# Altium schematic symbol library Sch_Device_veryaz.SchLib: 543 symbols (part 1 of 4)
Pins are listed as number, name and electrical type; pins without a type are passive.

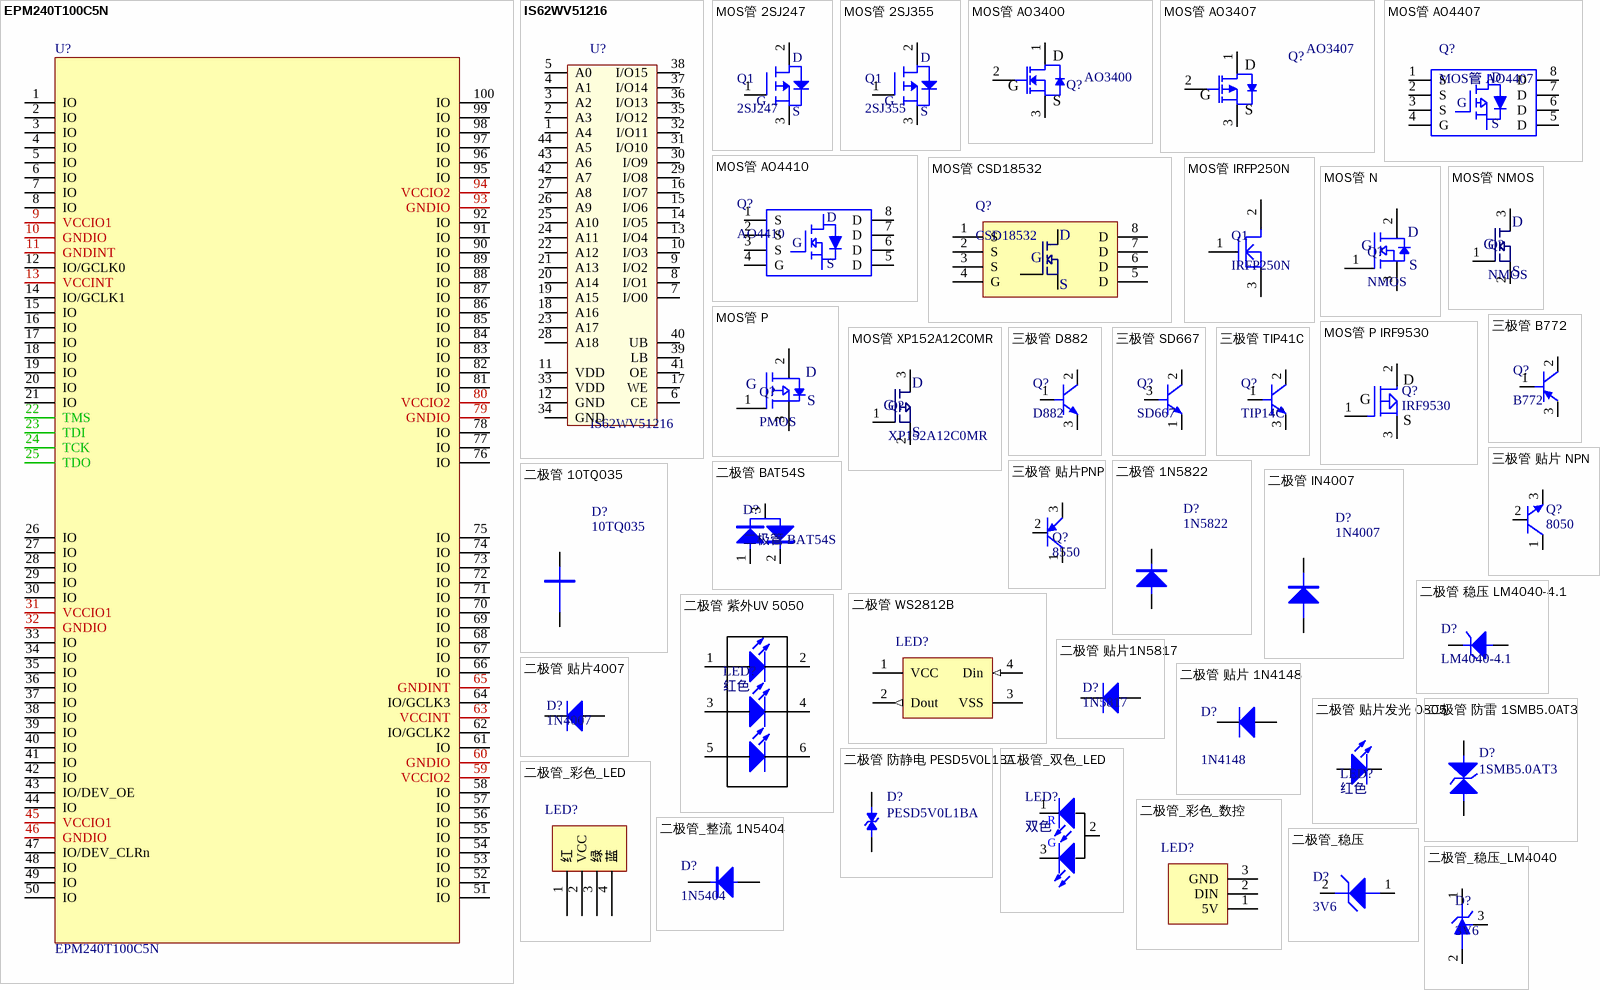
[diagram p0: symbols EPM240T100C5N to 二极管_稳压_LM4040]

## EPM240T100C5N
designator U?
封装: TQFP100; 名称: 贴片芯片; 单位: 片
footprint TQFP100 (Thin QFP, 100-Leads, Body 14x14mm, Pitch 0.5mm, IPC Low Density)
pins: 1 IO, 2 IO, 3 IO, 4 IO, 5 IO, 6 IO, 7 IO, 8 IO, 9 VCCIO1, 10 GNDIO, 11 GNDINT, 12 IO/GCLK0, 13 VCCINT, 14 IO/GCLK1, 15 IO, 16 IO, 17 IO, 18 IO, 19 IO, 20 IO, 21 IO, 22 TMS, 23 TDI, 24 TCK, 25 TDO, 26 IO, 27 IO, 28 IO, 29 IO, 30 IO, 31 VCCIO1, 32 GNDIO, 33 IO, 34 IO, 35 IO, 36 IO, 37 IO, 38 IO, 39 IO, 40 IO, 41 IO, 42 IO, 43 IO/DEV_OE, 44 IO, 45 VCCIO1, 46 GNDIO, 47 IO/DEV_CLRn, 48 IO, 49 IO, 50 IO, 51 IO, 52 IO, 53 IO, 54 IO, 55 IO, 56 IO, 57 IO, 58 IO, 59 VCCIO2, 60 GNDIO, 61 IO, 62 IO/GCLK2, 63 VCCINT, 64 IO/GCLK3, 65 GNDINT, 66 IO, 67 IO, 68 IO, 69 IO, 70 IO, 71 IO, 72 IO, 73 IO, 74 IO, 75 IO, 76 IO, 77 IO, 78 IO, 79 GNDIO, 80 VCCIO2, 81 IO, 82 IO, 83 IO, 84 IO, 85 IO, 86 IO, 87 IO, 88 IO, 89 IO, 90 IO, 91 IO, 92 IO, 93 GNDIO, 94 VCCIO2, 95 IO, 96 IO, 97 IO, 98 IO, 99 IO, 100 IO

## IS62WV51216
designator U?
footprint TSOP44
pins: 1 A4, 2 A3, 3 A2, 4 A1, 5 A0, 6 CE, 7 I/O0, 8 I/O1, 9 I/O2, 10 I/O3, 11 VDD, 12 GND, 13 I/O4, 14 I/O5, 15 I/O6, 16 I/O7, 17 WE, 18 A16, 19 A15, 20 A14, 21 A13, 22 A12, 23 A17, 24 A11, 25 A10, 26 A9, 27 A8, 28 A18, 29 I/O8, 30 I/O9, 31 I/O10, 32 I/O11, 33 VDD, 34 GND, 35 I/O12, 36 I/O13, 37 I/O14, 38 I/O15, 39 LB, 40 UB, 41 OE, 42 A7, 43 A6, 44 A5

## MOS管 2SJ247
designator Q1, comment 2SJ247
单位: 个; 封装: TO220; 名称: MOS管
footprint TO220
pins: 1, 2, 3
text: D; G; S

## MOS管 2SJ355
designator Q1, comment 2SJ355
单位: 个; 封装: 贴片; 名称: MOS管
footprint sot23b
pins: 1, 2, 3
text: D; G; S

## MOS管 AO3400
designator Q?, comment AO3400
单位: 个; 名称: N沟道MOS; 封装: TO-220
footprint SOT23B
pins: 1 D, 2 G, 3 S

## MOS管 AO3407
designator Q?, comment AO3407
单位: 个; 名称: P沟道MOS; 封装: SOT23
footprint SOT23B
pins: 1 D, 2 G, 3 S

## MOS管 AO4407
designator Q?
单位: 片; 封装: SOIC8; 名称: MOS管
footprint SOIC8
pins: 1 S, 2 S, 3 S, 4 G, 5 D, 6 D, 7 D, 8 D

## MOS管 AO4410
designator Q?, comment AO4410
名称: MOS管; 单位: 片; 封装: SOIC8
footprint SOIC8
pins: 1 S, 2 S, 3 S, 4 G, 5 D, 6 D, 7 D, 8 D

## MOS管 CSD18532
designator Q?, comment CSD18532
pins: 1 S, 2 S, 3 S, 4 G, 5 D, 6 D, 7 D, 8 D

## MOS管 IRFP250N
designator Q1, comment IRFP250N
单位: 个; 封装: 贴片; 名称: MOS管
footprint TO220 IRF9530
pins: 1, 2, 3

## MOS管 N
designator Q?, comment NMOS
单位: 个; 封装: TO220; 名称: P沟道 MOS管
footprint sot23b XP152A12C0MR
pins: 1 G, 2 D, 3 S

## MOS管 NMOS
designator Q?, comment NMOS
单位: 个; 封装: SOT23B; 名称: N沟道 MOS管
footprint sot23b XP152A12C0MR
pins: 1 G, 2 S, 3 D

## MOS管 P
designator Q?, comment PMOS
单位: 个; 封装: TO220; 名称: P沟道 MOS管
footprint sot23b XP152A12C0MR
pins: 1 G, 2 D, 3
text: S

## MOS管 P IRF9530
designator Q?, comment IRF9530
footprint TO220 IRF9530
pins: 1, 2, 3
2 alternate drawings of the same symbol

## MOS管 XP152A12C0MR
designator Q?, comment XP152A12C0MR
单位: 个; 封装: TO220; 名称: P沟道 MOS管
footprint sot23b XP152A12C0MR
pins: 1 G, 2 S, 3 D

## 三极管 B772
designator Q?, comment B772
单位: 片; 名称: 三极管; 封装: 贴片
footprint SOT89
pins: 1, 2, 3

## 三极管 D882
designator Q?, comment D882
单位: 片; 名称: 三极管; 封装: 贴片
footprint SOT89
pins: 1, 2, 3

## 三极管 SD667
designator Q?, comment SD667
单位: 片; 名称: 三极管; 封装: 直插
footprint TO92 LM78L05
pins: 1, 2, 3

## 三极管 TIP41C
designator Q?, comment TIP14C
单位: 片; 名称: 三极管; 封装: 直插
footprint TO220
pins: 1, 2, 3

## 三极管 贴片 NPN
designator Q?, comment 8050
NPN 8050; 名称: 贴片三极管; 封装: SOT23B; 单位: 个
footprint sot23b
pins: 1 C, 2 B, 3 E

## 三极管 贴片PNP
designator Q?, comment 8550
PNP 8550; 名称: 贴片三极管; 封装: SOT23B; 单位: 个
footprint sot23b
pins: 1 C, 2 B, 3 E

## 二极管 1N5822
designator D?, comment 1N5822
名称: 二极管; 封装: 直插; 单位: 个
footprint 二极管 贴片 4007
pins: 1 A, 2 K
2 alternate drawings of the same symbol

## 二极管 10TQ035
designator D?, comment 10TQ035
名称: 二极管; 封装: 直插; 单位: 个
footprint 二极管 贴片 4007
pins: 1 A, 2 K
2 alternate drawings of the same symbol

## 二极管 BAT54S
designator D?
单位: 个; 封装: SOT23; 名称: 二极管
footprint sot23b XP152A12C0MR
pins: 1, 2, 3

## 二极管 IN4007
designator D?, comment 1N4007
名称: 二极管; 封装: 贴片; 单位: 个
footprint 二极管 贴片 4007
pins: 1 A, 2 K
2 alternate drawings of the same symbol

## 二极管 WS2812B
designator LED?, comment WS2812B  (value not drawn)
单位: 个; 封装: 5050; 名称: WS2812B
footprint LED5050 (Footprint not found)
pins: 1 VCC, 2 Dout (out), 3 VSS, 4 Din (in)

## 二极管 稳压 LM4040-4.1
designator D?, comment LM4040-4.1
单位: 个; 封装: SOT23; 名称: 稳压二极管
footprint sot23b
pins: 2 K, 3 A

## 二极管 紫外UV 5050
designator LED?, comment 红色
名称: 贴片发光二极管; 封装: 5050; 单位: 个
footprint LED5050UV (Footprint not found)
pins: 1 A, 2 K, 3 A, 4 K, 5 A, 6 K

## 二极管 贴片1N5817
designator D?, comment 1N5817
名称: 贴片二极管; 封装: 贴片; 单位: 个
footprint 二极管 贴片 4007
pins: 1 A, 2 K
2 alternate drawings of the same symbol

## 二极管 贴片4007
designator D?, comment 1N4007
名称: 贴片二极管; 封装: 贴片; 单位: 个
footprint 二极管 贴片 4007
pins: 1 A, 2 K
2 alternate drawings of the same symbol

## 二极管 贴片 1N4148
designator D?, comment 1N4148
名称: 贴片二极管; 封装: 贴片; 单位: 个
footprint 二极管 贴片 IN4148 (SMT LED; 2 Flat Leads)
pins: 1 A, 2 K
2 alternate drawings of the same symbol

## 二极管 贴片发光 0805
designator LED?, comment 红色
名称: 贴片发光二极管; 封装: 0805; 单位: 个
footprint LED0805 (Chip Capacitor; Body 2.0 x 1.2 mm (LxW typ))
pins: 1 A, 2 K

## 二极管 防雷 1SMB5.0AT3
designator D?, comment 1SMB5.0AT3
名称: 防雷管; 封装: 直插; 单位: 个
footprint 二极管 贴片 4007
pins: 1 A, 2 K

## 二极管 防静电 PESD5V0L1BA
designator D?, comment PESD5V0L1BA
名称: 防静电管; 封装: 直插; 单位: 个
footprint 0805
pins: 1 A, 2 K

## 二极管_双色_LED
designator LED?, comment 双色
名称: 双色LED; 封装: 直插 5; 单位: 个
footprint LED5_双色
pins: 1 R, 2 C, 3 G

## 二极管_彩色_LED
designator LED?, comment LED  (value not drawn)
单位: 个; 封装: 直插 5; 名称: 三色发光二极管
footprint LED5_三色
pins: 1 红, 2 VCC, 3 绿, 4 蓝

## 二极管_彩色_数控
designator LED?, comment LED  (value not drawn)
单位: 个; 封装: 直插 5; 名称: 三色发光二极管
footprint LED5_彩色
pins: 1 5V, 2 DIN, 3 GND

## 二极管_整流 1N5404
designator D?, comment 1N5404
单位: 个; 封装: 直插; 名称: 整流二极管
footprint 二极管 直插 1N5404
pins: 1 A, 2 K

## 二极管_稳压
designator D?, comment 3V6
单位: 个; 封装: 贴片; 名称: 稳压二极管
footprint 二极管 贴片 IN4148 (SMT LED; 2 Flat Leads)
pins: 1 A, 2 K

## 二极管_稳压_LM4040
designator D?, comment 3V6
单位: 个; 封装: 贴片; 名称: 稳压二极管
footprint SOT23B
pins: 1 A, 2 K, 3 K

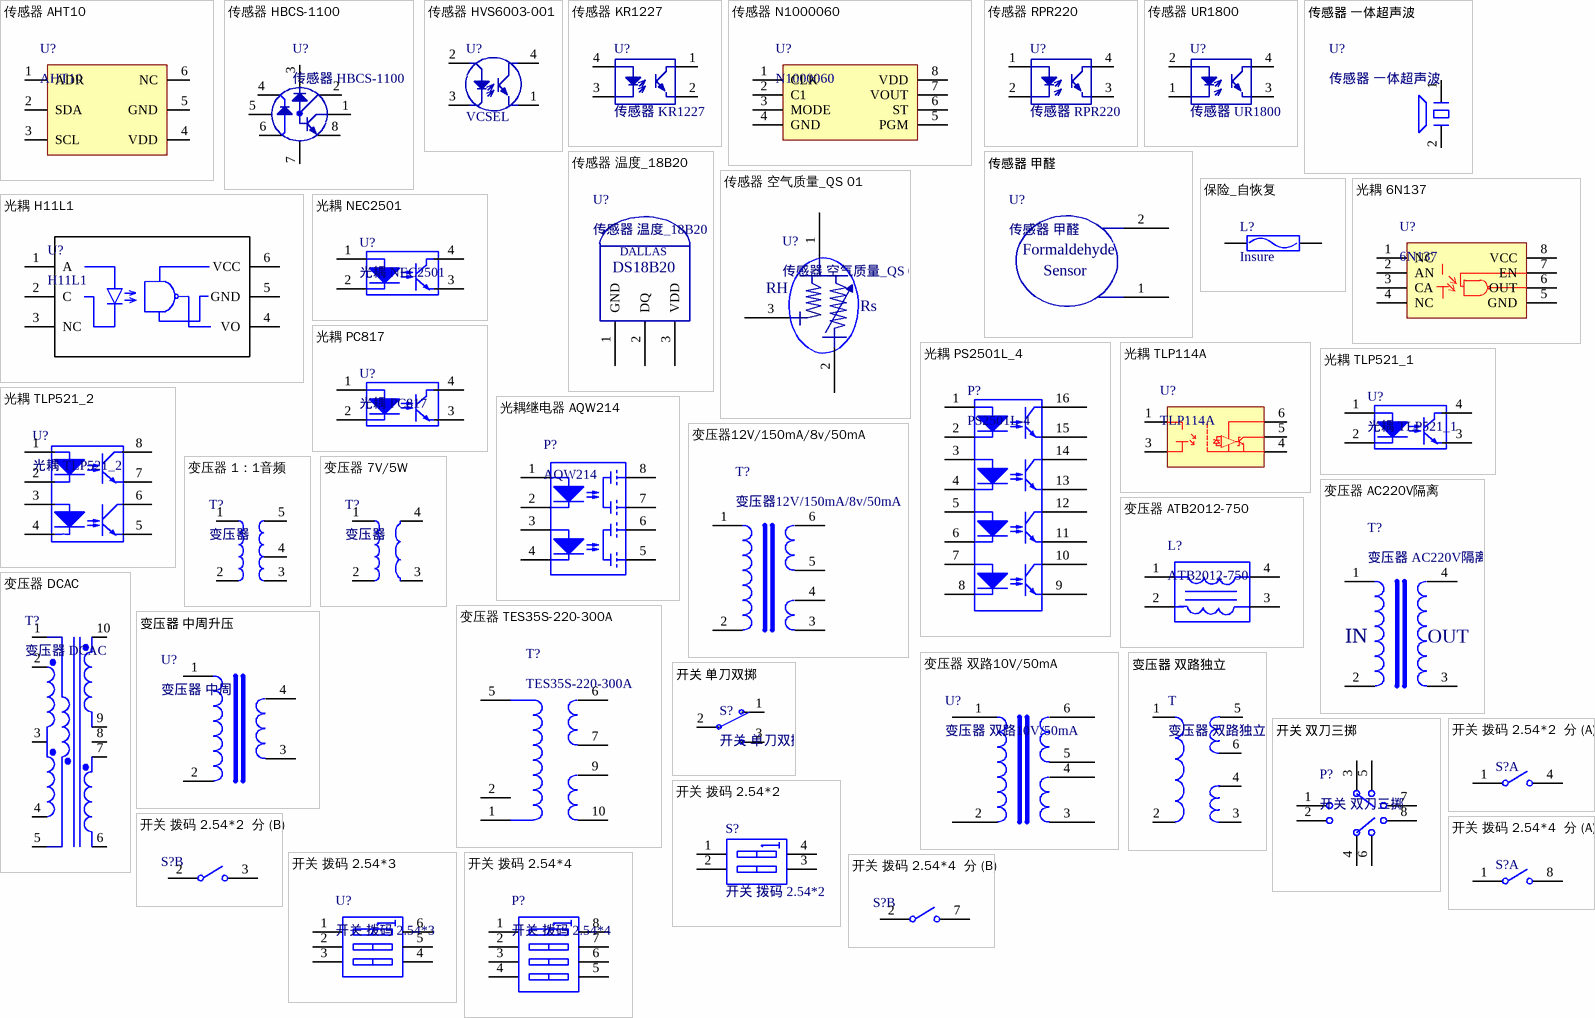
[diagram p1: symbols 传感器 AHT10 to 开关 拨码 2.54*4  分]

## 传感器 AHT10
designator U?, comment AHT10
单位: 个; 封装: 表贴; 名称: 传感器
footprint AHT10
pins: 1 ADR, 2 SDA, 3 SCL, 4 VDD, 5 GND, 6 NC

## 传感器 HBCS-1100
designator U?
单位: 个; 封装: 直插; 名称: 光电传感器
footprint CAN8
pins: 1, 2, 3, 4, 5, 6, 7, 8

## 传感器 HVS6003-001
designator U?, comment VCSEL
单位: 个; 封转: 直插; 名称: VCSEL
footprint HVS6003-001
pins: 1, 2, 3, 4

## 传感器 KR1227
designator U?
单位: 个; 名称: 光学传感器; 封装: KR1227
footprint KR1227
pins: 1, 2, 3, 4

## 传感器 N1000060
designator U?, comment N1000060
名称: 传感器; 封装: DIP8; 单位: 个
footprint DIP8  贴 (DIP; 8 Leads; Row Spacing 7.62 mm; Pitch 2.54 mm)
pins: 1 CLK, 2 C1, 3 MODE, 4 GND, 5 PGM, 6 ST, 7 VOUT, 8 VDD

## 传感器 RPR220
designator U?
单位: 个; 名称: 光学传感器; 封装: DIP
footprint RPR220 (Footprint not found)
pins: 1, 2, 3, 4

## 传感器 UR1800
designator U?
单位: 个; 名称: 光学传感器; 封装: UR1800
footprint UR1800
pins: 1, 2, 3, 4

## 传感器 一体超声波
designator U?
单位: 个; 封装: 直插; 名称: 传感器 一体超声波
footprint 传感器  超声波一体16mm
pins: 1, 2

## 传感器 温度_18B20
designator U?
单位: 个; 封装: 直插; 名称: 芯片
footprint TO92 TL431
pins: 1 GND, 2 DQ, 3 VDD
text: DALLAS; DS18B20

## 传感器 甲醛
designator U?
单位: 个; 封装: 直插; 名称: 传感器_甲醛
footprint VH2.54_2
pins: 1, 2
text: Formaldehyde; Sensor

## 传感器 空气质量_QS 01
designator U?
单位: 个; 封装: 直插; 名称: 空气质量传感器
footprint QS-01
pins: 1, 2, 3
text: RH; Rs

## 保险_自恢复
designator L?, comment Insure
单位: 个; 封装: 0805; 名称: 自恢复保险管
footprint 1206
pins: 1, 2

## 光耦 6N137
designator U?, comment 6N137
封装: DIP8; 单位: 片; 名称: 光耦
footprint DIP8 (DIP; 8 Leads; Row Spacing 7.62 mm; Pitch 2.54 mm)
pins: 1 NC, 2 AN, 3 CA, 4 NC, 5 GND, 6 OUT, 7 EN, 8 VCC

## 光耦 H11L1
designator U?, comment H11L1
封装: DIP6; 单位: 片; 名称: 光耦
footprint DIP6
pins: 1 A, 2 C, 3 NC, 4 VO, 5 GND, 6 VCC

## 光耦 NEC2501
designator U?
单位: 个; 封装: DIP-4; 名称: 光耦
footprint DIP4 (DIP; 4 Leads; Row Spacing 7.62 mm; Pitch 2.54 mm)
pins: 1, 2, 3, 4

## 光耦 PC817
designator U?
单位: 个; 封装: DIP-4; 名称: 光耦
footprint DIP4 (DIP; 4 Leads; Row Spacing 7.62 mm; Pitch 2.54 mm)
pins: 1, 2, 3, 4

## 光耦 PS2501L_4
designator P?, comment PS2501L-4
footprint dip16 (DIP; 16 Leads; Row Spacing 7.62 mm; Pitch 2.54 mm)
pins: 1, 2, 3, 4, 5, 6, 7, 8, 9, 10, 11, 12, 13, 14, 15, 16

## 光耦 TLP114A
designator U?, comment TLP114A
单位: 片; 封装: 贴片; 名称: 光耦
footprint SOIC5
pins: 1, 3, 4, 5, 6

## 光耦 TLP521_1
designator U?
单位: 个; 封装: DIP-4; 名称: 光耦
footprint DIP4 (DIP; 4 Leads; Row Spacing 7.62 mm; Pitch 2.54 mm)
pins: 1, 2, 3, 4

## 光耦 TLP521_2
designator U?
单位: 片; 封装: DIP-8; 名称: 光耦
footprint DIP8 (DIP; 8 Leads; Row Spacing 7.62 mm; Pitch 2.54 mm)
pins: 1, 2, 3, 4, 5, 6, 7, 8

## 光耦继电器 AQW214
designator P?, comment AQW214
单位: 个; 名称: 光耦继电器; 封装: DIP8
footprint DIP8 (DIP; 8 Leads; Row Spacing 7.62 mm; Pitch 2.54 mm)
pins: 1, 2, 3, 4, 5, 6, 7, 8

## 变压器12V/150mA/8v/50mA
designator T?
单位: 个; 封装: 直插; 名称: 变压器
footprint 变压器 12V/5V
pins: 1, 2, 3, 4, 5, 6

## 变压器 1：1音频
designator T?, comment 变压器
单位: 个; 封装: 直插; 名称: 变压器 1:1音频
footprint 变压器 1：1 音频
pins: 1, 2, 3, 4, 5

## 变压器 7V/5W
designator T?, comment 变压器
单位: 个; 封装: 直插; 名称: 变压器
footprint 变压器 7V/5w
pins: 1, 2, 3, 4

## 变压器 AC220V隔离
designator T?
单位: 个; 封装: 直插; 名称: 变压器
footprint 变压器 AC220V隔离
pins: 1, 2, 3, 4
text: IN; OUT

## 变压器 ATB2012-750
designator L?, comment ATB2012-750
封装: 贴片; 单位: 个; 名称: 变压器
footprint ATB2012-75011-T
pins: 1, 2, 3, 4

## 变压器 DCAC
designator T?
封装: 直插; 单位: 个; 名称: 变压器
footprint 变压器 DCAC*2
pins: 1 Sec1+, 2 Pri1+, 3 Pri1-, 4 Pri2-, 5 Sec1-, 6 Sec2-, 7 Sec2+, 8 Sec2+, 9 Sec2-, 10 Sec2+

## 变压器 TES35S-220-300A
designator T?, comment TES35S-220-300A
名称: 变压器; 封装: 直插; 单位: 个
footprint 变压器 TE35S-220-300A
pins: 1, 2, 5, 6, 7, 9, 10

## 变压器 中周升压
designator U?, comment 变压器 中周
封装: 直插; 单位: 个; 名称: 变压器
footprint 中周
pins: 1, 2, 3, 4

## 变压器 双路10V/50mA
designator U?
封装: 直插; 单位: 个; 名称: 变压器
footprint 变压器 10V/50mA
pins: 1, 2, 3, 4, 5, 6

## 变压器 双路独立
designator T
单位: 个; 封装: 直插; 名称: 变压器 双路独立
footprint 变压器 10V/50mA
pins: 1, 2, 3, 4, 5, 6

## 开关 单刀双掷
designator S?
单位: 个; 封转: 直插; 名称: 单刀双掷
footprint 开关 单刀双掷  15*8
pins: 1, 2, 3

## 开关 双刀三掷
designator P?
footprint 开关 双刀三掷
pins: 1 COMMON, 2 COMMON, 3 COMMON, 4 NO, 5 NO, 6 NO, 7 NO, 8 COMMON

## 开关 拨码 2.54*2
designator S?
名称: 拨码开关; 封装: DIP4; 单位: 个
footprint DIP4 (DIP; 4 Leads; Row Spacing 7.62 mm; Pitch 2.54 mm)
pins: 1 A1, 2 A2, 3 B2, 4 B1

## 开关 拨码 2.54*2  分
designator S?, comment 拨码 2.54*2分  (value not drawn)
单位: 个; 封装: DIP4; 名称: 拨码开关
footprint DIP4 (DIP; 4 Leads; Row Spacing 7.62 mm; Pitch 2.54 mm)
part A pins: 1 A1, 4 B4
part B pins: 2 A2, 3 B3

## 开关 拨码 2.54*3
designator U?
单位: 个; 封装: DIP-6; 名称: 拨码 开关
footprint DIP6
pins: 1 A1, 2 A2, 3 A3, 4 A4, 5 B1, 6 B2

## 开关 拨码 2.54*4
designator P?
单位: 个; 封装: DIP8; 名称: 拨码开关
footprint DIP8 (DIP; 8 Leads; Row Spacing 7.62 mm; Pitch 2.54 mm)
pins: 1 A1, 2 A2, 3 A3, 4 A4, 5 B1, 6 B2, 7 B3, 8 B4

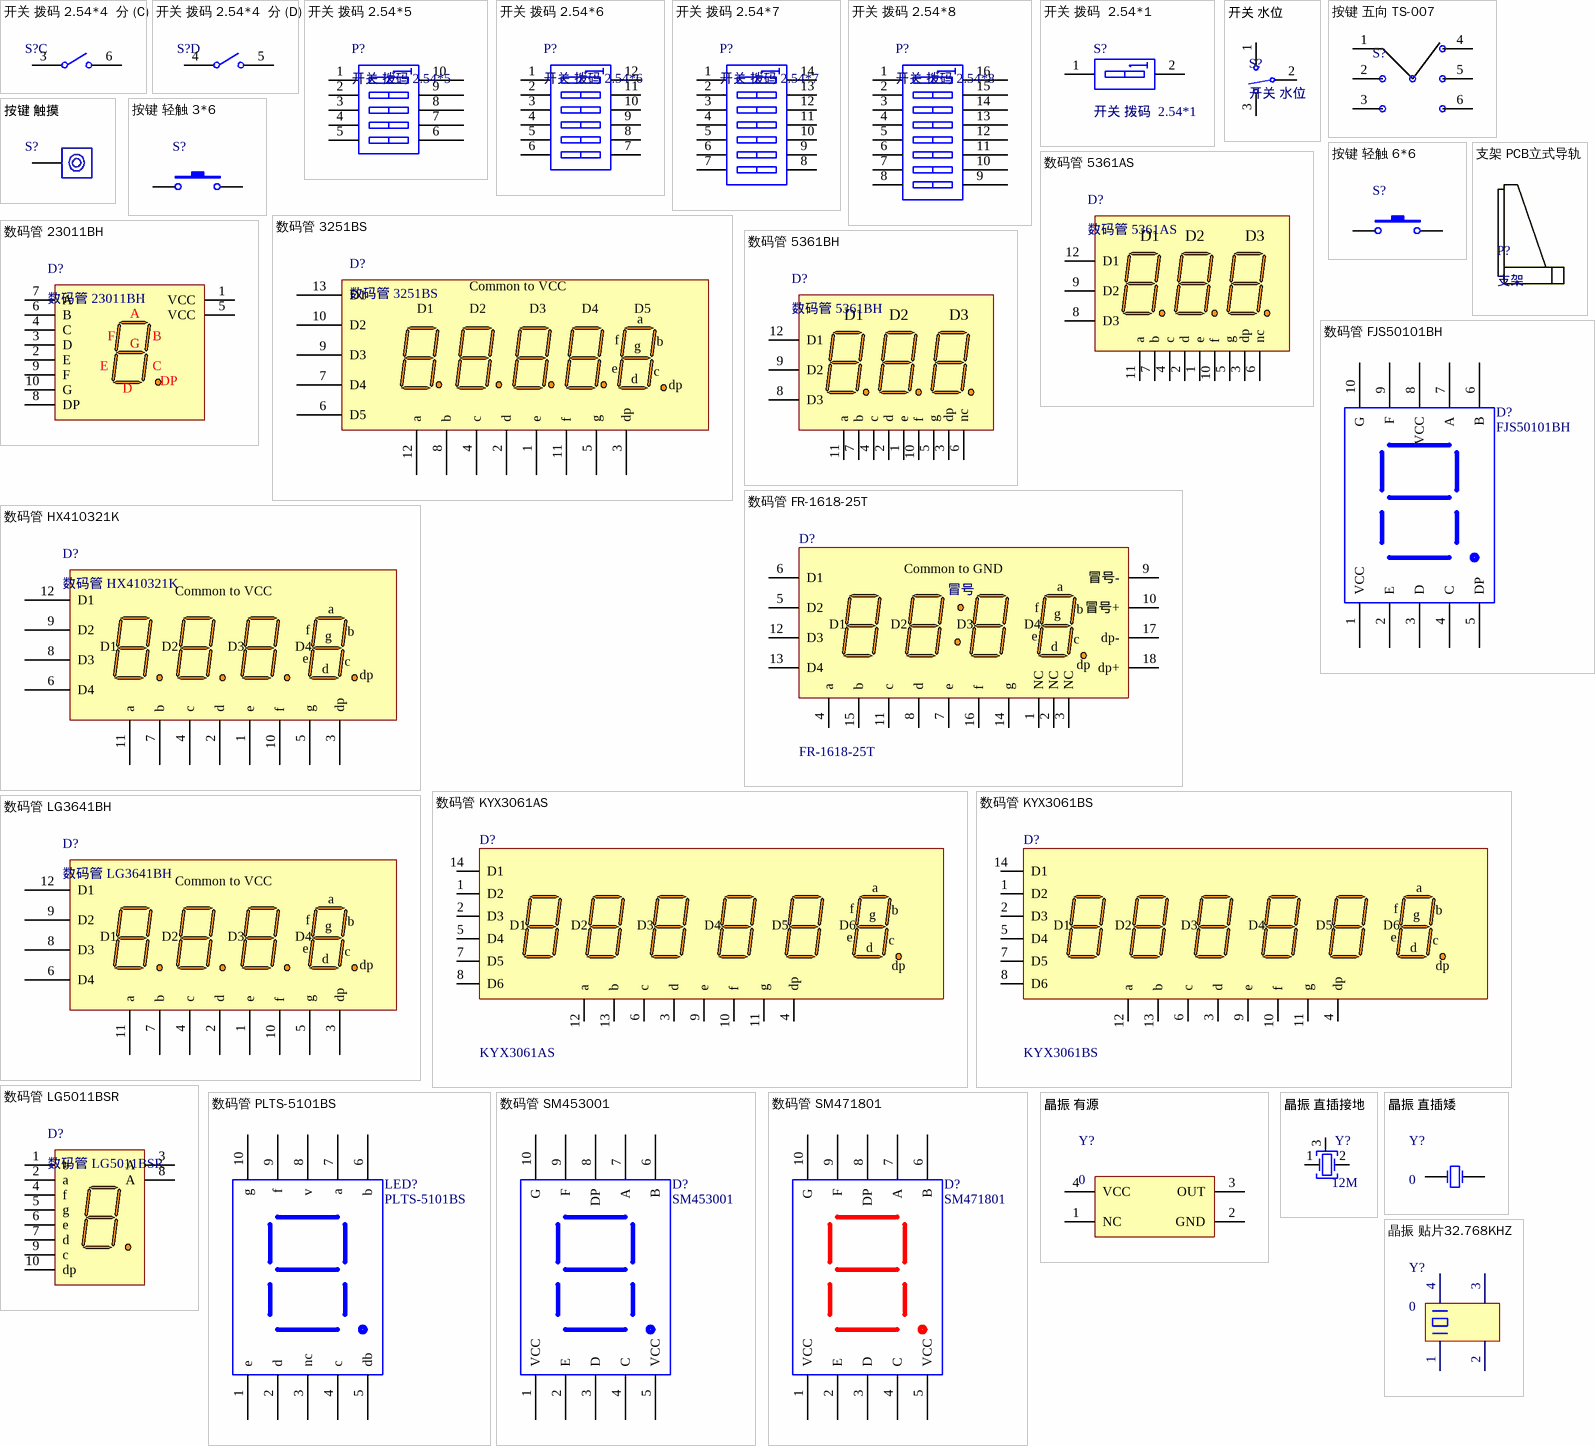
[diagram p2: symbols 开关 拨码 2.54*4  分 to 晶振 贴片32.768KHZ]

## 开关 拨码 2.54*4  分
designator S?, comment 拨码 2.54*4 分  (value not drawn)
单位: 个; 封装: DIP8; 名称: 拨码开关
footprint DIP8 (DIP; 8 Leads; Row Spacing 7.62 mm; Pitch 2.54 mm)
part A pins: 1 A1, 8 B4
part B pins: 2 A2, 7 B3
part C pins: 3 A3, 6 B2
part D pins: 4 A4, 5 B1

## 开关 拨码 2.54*5
designator P?
单位: 个; 名称: 拨码开关; 封装: 直插
footprint DIP10
pins: 1 A1, 2 A2, 3 A3, 4 A4, 5 A5, 6 B5, 7 B4, 8 B3, 9 B2, 10 B1

## 开关 拨码 2.54*6
designator P?
单位: 个; 封装: DIP12; 名称: 拨码 开关
footprint DIP12
pins: 1 A1, 2 A2, 3 A3, 4 A4, 5 A5, 6 B5, 7 B4, 8 B3, 9 B2, 10 B1, 11, 12

## 开关 拨码 2.54*7
designator P?
封装: DIP14; 单位: 个; 名称: 拨码 开关
footprint DIP14
pins: 1 A1, 2 A2, 3 A3, 4 A4, 5 A5, 6 B5, 7 B4, 8 B3, 9 B2, 10 B1, 11, 12, 13, 14

## 开关 拨码 2.54*8
designator P?
单位: 个; 封装: DIP16; 名称: 拨码开关
footprint DIP16 (DIP; 16 Leads; Row Spacing 7.62 mm; Pitch 2.54 mm)
pins: 1 A1, 2 A2, 3 A3, 4 A4, 5 A5, 6 A6, 7 A7, 8 A8, 9 B8, 10 B7, 11 B6, 12 B5, 13 B4, 14 B3, 15 B2, 16 B1

## 开关 拨码  2.54*1
designator S?
名称: 拨码开关; 封装: DIP2; 单位: 个
footprint DIP2 (DIP; 4 Leads; Row Spacing 7.62 mm; Pitch 2.54 mm)
pins: 1 A1, 2 A2

## 开关 水位
designator S?
单位: 个; 名称: 水位开关; 封转: 直插
footprint VH2.54_3
pins: 1, 2, 3

## 按键 五向 TS-007
designator S?, comment TS-007  (value not drawn)
单位: 个; 名称: 开关; 封装: 表贴
footprint 按键 五向 TS-007 (Footprint not found)
pins: 1, 2, 3, 4, 5, 6

## 按键 触摸
designator S?  (value not drawn)
单位: 个; 封装: PCB表面; 名称: 触摸按键
footprint 按键 触摸_1
pins: 1

## 按键 轻触 3*6
designator S?, comment key  (value not drawn)
单位: 个; 名称: 开关; 封装: 直插 12*12*12
footprint 按键 轻触  6*3
pins: 1, 2

## 按键 轻触 6*6
designator S?, comment key  (value not drawn)
单位: 个; 名称: 开关; 封装: 直插 12*12*12
footprint 按键 轻触 6*6
pins: 1, 2

## 支架 PCB立式导轨
designator P?, comment 支架
footprint 立式导轨

## 数码管 3251BS
designator D?
单位: 个; 封装: 直插; 名称: 数码管
footprint 数码管 3251BS
pins: 1 e, 2 d, 3 dp, 4 c, 5 g, 6 D5, 7 D4, 8 b, 9 D3, 10 D2, 11 f, 12 a, 13 D1
text: Common to VCC

## 数码管 5361AS
designator D?
5361AS  0.56寸  3位  共阴; 单位: 个; 封装: 直插; 名称: 数码管
footprint 数码管 HS310561K
pins: 1 e, 2 d, 3 dp, 4 c, 5 g, 6 nc, 7 b, 8 D3, 9 D2, 10 f, 11 a, 12 D1

## 数码管 5361BH
designator D?
HS310561K/FJ5361BH  0.56寸  3位  共阳; 单位: 个; 封装: 直插; 名称: 数码管
footprint 数码管 HS310561K
pins: 1 e, 2 d, 3 dp, 4 c, 5 g, 6 nc, 7 b, 8 D3, 9 D2, 10 f, 11 a, 12 D1

## 数码管 23011BH
designator D?
单位: 个; 封装: 23011BH; 名称: 数码管
footprint 数码管 23011BH (Footprint not found)
pins: 1 VCC, 2 E, 3 D, 4 C, 5 VCC, 6 B, 7 A, 8 DP, 9 F, 10 G

## 数码管 FJS50101BH
designator D?, comment FJS50101BH
5寸数码管  共阳; 名称: 数码管; 单位: 片; 封装: 直插
footprint 数码管 FJS50101BH (Footprint not found)
pins: 1 VCC, 2 E, 3 D, 4 C, 5 DP, 6 B, 7 A, 8 VCC, 9 F, 10 G

## 数码管 FR-1618-25T
designator D?, comment FR-1618-25T
单位: 个; 封装: 直插; 名称: 数码管
footprint 数码管 FR-1618-25T
pins: 1 空 hidden, 1 NC, 2 空 hidden, 2 NC, 3 空 hidden, 3 NC, 4 a, 5 D2, 6 D1, 7 e, 8 d, 9 冒号-, 10 冒号+, 11 c, 12 D3, 13 D4, 14 g, 15 b, 16 f, 17 dp-, 18 dp+
text: Common to GND; 冒号; dp

## 数码管 HX410321K
designator D?
单位: 个; 封装: 直插; 名称: 数码管
footprint 数码管 HX410321K
pins: 1 e, 2 d, 3 dp, 4 c, 5 g, 6 D4, 7 b, 8 D3, 9 D2, 10 f, 11 a, 12 D1
text: Common to VCC

## 数码管 KYX3061AS
designator D?, comment KYX3061AS
0.3寸 6位  共阴; 单位: 个; 封装: 直插; 名称: 数码管
footprint 数码管 KYX3061BS
pins: 1 空 hidden, 1 D2, 2 空 hidden, 2 D3, 3 空 hidden, 3 d, 4 dp, 5 D4, 6 c, 7 D5, 8 D6, 9 e, 10 f, 11 g, 12 a, 13 b, 14 D1

## 数码管 KYX3061BS
designator D?, comment KYX3061BS
0.3寸 6位  共阳; 单位: 个; 封装: 直插; 名称: 数码管
footprint 数码管 KYX3061BS (Footprint not found)
pins: 1 空 hidden, 1 D2, 2 空 hidden, 2 D3, 3 空 hidden, 3 d, 4 dp, 5 D4, 6 c, 7 D5, 8 D6, 9 e, 10 f, 11 g, 12 a, 13 b, 14 D1

## 数码管 LG3641BH
designator D?
单位: 个; 封装: *; 名称: 数码管
footprint 数码管 LG3641BH
pins: 1 e, 2 d, 3 dp, 4 c, 5 g, 6 D4, 7 b, 8 D3, 9 D2, 10 f, 11 a, 12 D1
text: Common to VCC

## 数码管 LG5011BSR
designator D?
单位: 个; 封装: LG5011BSR; 名称: 数码管
footprint 数码管 LG5011BSR
pins: 1 b, 2 a, 3 A, 4 f, 5 g, 6 e, 7 d, 8 A, 9 c, 10 dp

## 数码管 PLTS-5101BS
designator LED?, comment PLTS-5101BS
名称: 数码管; 单位: 片; 封装: 直插
footprint PLTS-5101BS
pins: 1 e, 2 d, 3 nc, 4 c, 5 db, 6 b, 7 a, 8 v, 9 f, 10 g

## 数码管 SM453001
designator D?, comment SM453001
3寸数码管; 名称: 数码管; 单位: 片; 封装: 直插
footprint 数码管 SM453001
pins: 1 VCC, 2 E, 3 D, 4 C, 5 VCC, 6 B, 7 A, 8 DP, 9 F, 10 G

## 数码管 SM471801
designator D?, comment SM471801
1.8寸数码管; 名称: 数码管; 单位: 片; 封装: 直插
footprint 数码管 SM471801 (Footprint not found)
pins: 1 VCC, 2 E, 3 D, 4 C, 5 VCC, 6 B, 7 A, 8 DP, 9 F, 10 G

## 晶振 有源
designator Y?, comment 0
名称: 晶振; 封装: 贴片; 单位: 个
footprint 晶振 有源 5*7
pins: 1 NC, 2 GND, 3 OUT, 4 VCC

## 晶振 直插接地
designator Y?, comment 12M
单位: 个; 封装: 直插; 名称: 晶振
footprint 晶振 BCY-W2/D4.7-GND
pins: 1 OSC1, 2 OSC2, 3 OSC3

## 晶振 直插矮
designator Y?, comment 0
名称: 晶振; 封装: 直插矮; 单位: 个
footprint 晶振 BCY-W2/E4.7 (Quartz Crystal, Thru-Hole; 2 Leads; Body 11.35 x 4.65 x 13.46 mm (LxWxH max))
pins: 1 OSC1, 2 OSC2

## 晶振 贴片32.768KHZ
designator Y?, comment 0
名称: 晶振; 封装: 直插矮; 单位: 个
footprint 晶振 32.768KHZ
pins: 1, 2, 3, 4

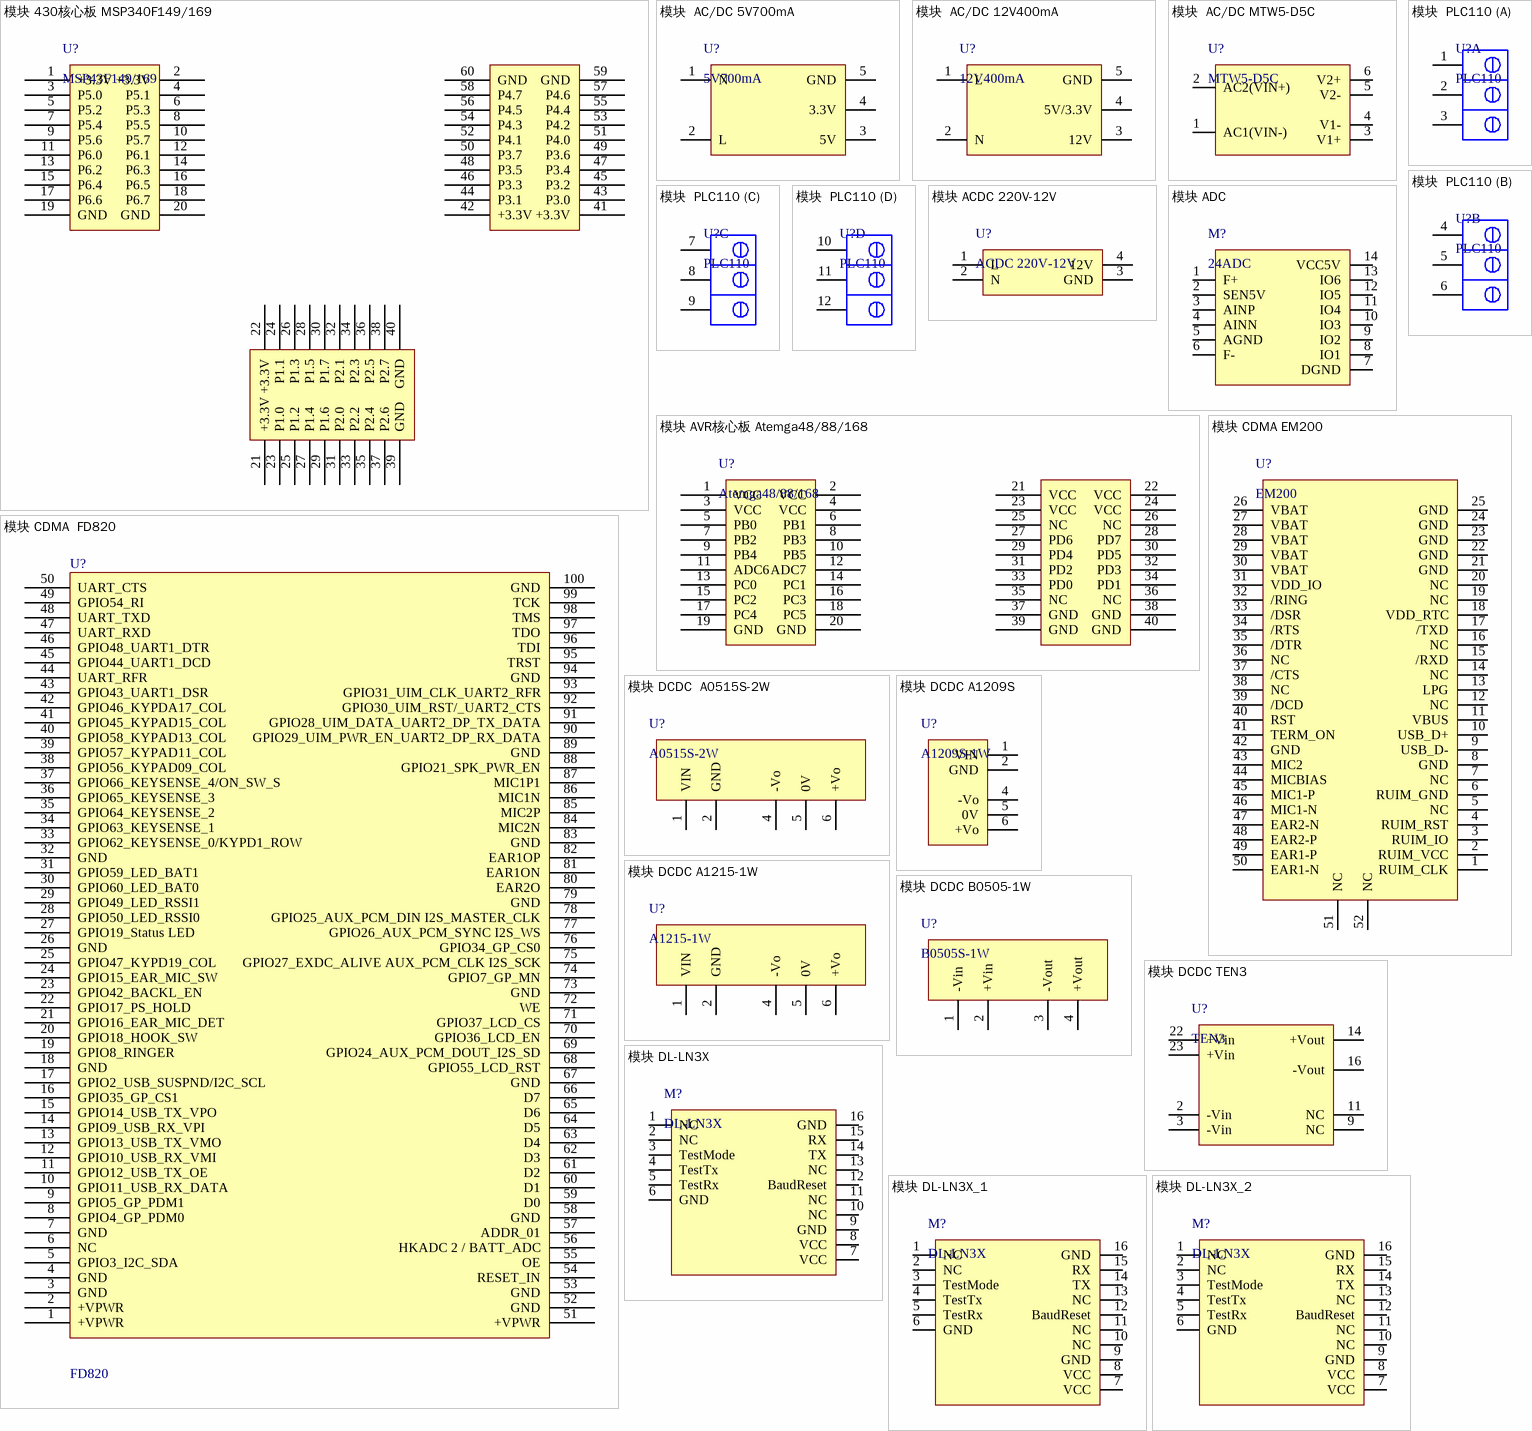
[diagram p3: symbols 模块 430核心板 MSP340F149/169 to 模块 DL-LN3X_2]

## 模块 430核心板 MSP340F149/169
designator U?, comment MSP43F149/169
footprint 核心板 MSP430F149/169
pins: 1 +3.3V, 2 +3.3V, 3 P5.0, 4 P5.1, 5 P5.2, 6 P5.3, 7 P5.4, 8 P5.5, 9 P5.6, 10 P5.7, 11 P6.0, 12 P6.1, 13 P6.2, 14 P6.3, 15 P6.4, 16 P6.5, 17 P6.6, 18 P6.7, 19 GND, 20 GND, 21 +3.3V, 22 +3.3V, 23 P1.0, 24 P1.1, 25 P1.2, 26 P1.3, 27 P1.4, 28 P1.5, 29 P1.6, 30 P1.7, 31 P2.0, 32 P2.1, 33 P2.2, 34 P2.3, 35 P2.4, 36 P2.5, 37 P2.6, 38 P2.7, 39 GND, 40 GND, 41 +3.3V, 42 +3.3V, 43 P3.0, 44 P3.1, 45 P3.2, 46 P3.3, 47 P3.4, 48 P3.5, 49 P3.6, 50 P3.7, 51 P4.0, 52 P4.1, 53 P4.2, 54 P4.3, 55 P4.4, 56 P4.5, 57 P4.6, 58 P4.7, 59 GND, 60 GND

## 模块  AC/DC 5V700mA
designator U?, comment 5V700mA
单位: 个; 封装: 直插; 名称: AC/DC 模块
footprint 模块 ACDC 5V700mA
pins: 1 N, 2 L, 3 5V, 4 3.3V, 5 GND

## 模块  AC/DC 12V400mA
designator U?, comment 12V400mA
单位: 个; 封装: 直插; 名称: AC/DC 模块
footprint 模块 ACDC 12V400mA
pins: 1 L, 2 N, 3 12V, 4 5V/3.3V, 5 GND

## 模块  AC/DC MTW5-D5C
designator U?, comment MTW5-D5C
单位: 个; 封装: 直插; 名称: AC/DC 模块
footprint 模块 ACDC 5W
pins: 1 AC1(VIN-), 2 AC2(VIN+), 3 V1+, 4 V1-, 5 V2-, 6 V2+

## 模块  PLC110
designator U?, comment PLC110
单位: 个; 封装: 直插; 名称: PLC110壳体
footprint 模块 PLC110
part A pins: 1, 2, 3
part B pins: 4, 5, 6
part C pins: 7, 8, 9
part D pins: 10, 11, 12

## 模块 ACDC 220V-12V
designator U?, comment ACDC 220V-12V
单位: 个; 封装: 直插; 名称: 模块 ACDC 220V-12V
footprint 模块 ACDC 220V-12V (Footprint not found)
pins: 1 L, 2 N, 3 GND, 4 12V

## 模块 ADC
designator M?, comment 24ADC
单位: 个; 名称: ADC模块; 封装: 直插
footprint 模块 ADC (Footprint not found)
pins: 1 F+, 2 SEN5V, 3 AINP, 4 AINN, 5 AGND, 6 F-, 7 DGND, 8 IO1, 9 IO2, 10 IO3, 11 IO4, 12 IO5, 13 IO6, 14 VCC5V

## 模块 AVR核心板 Atemga48/88/168
designator U?, comment Atemga48/88/168
footprint 核心板 Atmega48/88/168
pins: 1 VCC, 2 VCC, 3 VCC, 4 VCC, 5 PB0, 6 PB1, 7 PB2, 8 PB3, 9 PB4, 10 PB5, 11 ADC6, 12 ADC7, 13 PC0, 14 PC1, 15 PC2, 16 PC3, 17 PC4, 18 PC5, 19 GND, 20 GND, 21 VCC, 22 VCC, 23 VCC, 24 VCC, 25 NC, 26 NC, 27 PD6, 28 PD7, 29 PD4, 30 PD5, 31 PD2, 32 PD3, 33 PD0, 34 PD1, 35 NC, 36 NC, 37 GND, 38 GND, 39 GND, 40 GND

## 模块 CDMA  FD820
designator U?, comment FD820
封装: AXK5F00545J; 名称: CDMA通讯模块; 单位: 个
footprint 模块 FD820
pins: 1 +VPWR, 2 +VPWR, 3 GND, 4 GND, 5 GPIO3_I2C_SDA, 6 NC, 7 GND, 8 GPIO4_GP_PDM0, 9 GPIO5_GP_PDM1, 10 GPIO11_USB_RX_DATA, 11 GPIO12_USB_TX_OE, 12 GPIO10_USB_RX_VMI, 13 GPIO13_USB_TX_VMO, 14 GPIO9_USB_RX_VPI, 15 GPIO14_USB_TX_VPO, 16 GPIO35_GP_CS1, 17 GPIO2_USB_SUSPND/I2C_SCL, 18 GND, 19 GPIO8_RINGER, 20 GPIO18_HOOK_SW, 21 GPIO16_EAR_MIC_DET, 22 GPIO17_PS_HOLD, 23 GPIO42_BACKL_EN, 24 GPIO15_EAR_MIC_SW, 25 GPIO47_KYPD19_COL, 26 GND, 27 GPIO19_Status LED, 28 GPIO50_LED_RSSI0, 29 GPIO49_LED_RSSI1, 30 GPIO60_LED_BAT0, 31 GPIO59_LED_BAT1, 32 GND, 33 GPIO62_KEYSENSE_0/KYPD1_ROW, 34 GPIO63_KEYSENSE_1, 35 GPIO64_KEYSENSE_2, 36 GPIO65_KEYSENSE_3, 37 GPIO66_KEYSENSE_4/ON_SW_S, 38 GPIO56_KYPAD09_COL, 39 GPIO57_KYPAD11_COL, 40 GPIO58_KYPAD13_COL, 41 GPIO45_KYPAD15_COL, 42 GPIO46_KYPDA17_COL, 43 GPIO43_UART1_DSR, 44 UART_RFR, 45 GPIO44_UART1_DCD, 46 GPIO48_UART1_DTR, 47 UART_RXD, 48 UART_TXD, 49 GPIO54_RI, 50 UART_CTS, 51 +VPWR, 52 GND, 53 GND, 54 RESET_IN, 55 OE, 56 HKADC 2 / BATT_ADC, 57 ADDR_01, 58 GND, 59 D0, 60 D1, 61 D2, 62 D3, 63 D4, 64 D5, 65 D6, 66 D7, 67 GND, 68 GPIO55_LCD_RST, 69 GPIO24_AUX_PCM_DOUT_I2S_SD, 70 GPIO36_LCD_EN, 71 GPIO37_LCD_CS, 72 WE, 73 GND, 74 GPIO7_GP_MN, 75 GPIO27_EXDC_ALIVE AUX_PCM_CLK I2S_SCK, 76 GPIO34_GP_CS0, 77 GPIO26_AUX_PCM_SYNC I2S_WS, 78 GPIO25_AUX_PCM_DIN I2S_MASTER_CLK, 79 GND, 80 EAR2O, 81 EAR1ON, 82 EAR1OP, 83 GND, 84 MIC2N, 85 MIC2P, 86 MIC1N, 87 MIC1P1, 88 GPIO21_SPK_PWR_EN, 89 GND, 90 GPIO29_UIM_PWR_EN_UART2_DP_RX_DATA, 91 GPIO28_UIM_DATA_UART2_DP_TX_DATA, 92 GPIO30_UIM_RST/_UART2_CTS, 93 GPIO31_UIM_CLK_UART2_RFR, 94 GND, 95 TRST, 96 TDI, 97 TDO, 98 TMS, 99 TCK, 100 GND
2 alternate drawings of the same symbol

## 模块 CDMA EM200
designator U?, comment EM200
单位: 个; 封装: 贴片 50PINB2B连接器; 名称: CDMA通讯模块 EM200
footprint 模块 EM200
pins: 1 RUIM_CLK, 2 RUIM_VCC, 3 RUIM_IO, 4 RUIM_RST, 5 NC, 6 RUIM_GND, 7 NC, 8 GND, 9 USB_D-, 10 USB_D+, 11 VBUS, 12 NC, 13 LPG, 14 NC, 15 /RXD, 16 NC, 17 /TXD, 18 VDD_RTC, 19 NC, 20 NC, 21 GND, 22 GND, 23 GND, 24 GND, 25 GND, 26 VBAT, 27 VBAT, 28 VBAT, 29 VBAT, 30 VBAT, 31 VDD_IO, 32 /RING, 33 /DSR, 34 /RTS, 35 /DTR, 36 NC, 37 /CTS, 38 NC, 39 /DCD, 40 RST, 41 TERM_ON, 42 GND, 43 MIC2, 44 MICBIAS, 45 MIC1-P, 46 MIC1-N, 47 EAR2-N, 48 EAR2-P, 49 EAR1-P, 50 EAR1-N, 51 NC, 52 NC

## 模块 DCDC  A0515S-2W
designator U?, comment A0515S-2W
单位: 个; 封装: 直插; 名称: 模块 DCDC
footprint 模块 DCDC A0515S-2W
pins: 1 VIN, 2 GND, 4 -Vo, 5 0V, 6 +Vo

## 模块 DCDC A1209S
designator U?, comment A1209S-1W
单位: 个; 封装: 直插; 名称: 模块 DCDC A1209S
footprint 模块 DCDC1209S-1W (Footprint not found)
pins: 1 VIN, 2 GND, 4 -Vo, 5 0V, 6 +Vo

## 模块 DCDC A1215-1W
designator U?, comment A1215-1W
单位: 个; 封装: 直插; 名称: 模块 DCDC
footprint 模块 DCDC A1215-1W (Footprint not found)
pins: 1 VIN, 2 GND, 4 -Vo, 5 0V, 6 +Vo

## 模块 DCDC B0505-1W
designator U?, comment B0505S-1W
名称: DCDC; 单位: 个; 封装: SIP4
footprint 模块 隔离电源 B0505S-1W
pins: 1 -Vin, 2 +Vin, 3 -Vout, 4 +Vout

## 模块 DCDC TEN3
designator U?, comment TEN3
单位: 个; 封装: 直插; 名称: 模块 DCDC
footprint 模块 DCDCTEN3 (Footprint not found)
pins: 2 -Vin, 3 -Vin, 9 NC, 11 NC, 14 +Vout, 16 -Vout, 22 +Vin, 23 +Vin

## 模块 DL-LN3X
designator M?, comment DL-LN3X
单位: 个; 名称: 无线模块; 封装: 贴片
footprint 模块 DL-LN3X (DL-LN3X)
pins: 1 NC, 2 NC, 3 TestMode, 4 TestTx, 5 TestRx, 6 GND, 7 VCC, 8 VCC, 9 GND, 10 NC, 11 NC, 12 BaudReset, 13 NC, 14 TX, 15 RX, 16 GND

## 模块 DL-LN3X_1
designator M?, comment DL-LN3X
单位: 个; 名称: 无线模块; 封装: 贴片
footprint 模块 DL-LN3X (DL-LN3X)
pins: 1 NC, 2 NC, 3 TestMode, 4 TestTx, 5 TestRx, 6 GND, 7 VCC, 8 VCC, 9 GND, 10 NC, 11 NC, 12 BaudReset, 13 NC, 14 TX, 15 RX, 16 GND

## 模块 DL-LN3X_2
designator M?, comment DL-LN3X
单位: 个; 名称: 无线模块; 封装: 贴片
footprint 模块 DL-LN3X (DL-LN3X)
pins: 1 NC, 2 NC, 3 TestMode, 4 TestTx, 5 TestRx, 6 GND, 7 VCC, 8 VCC, 9 GND, 10 NC, 11 NC, 12 BaudReset, 13 NC, 14 TX, 15 RX, 16 GND

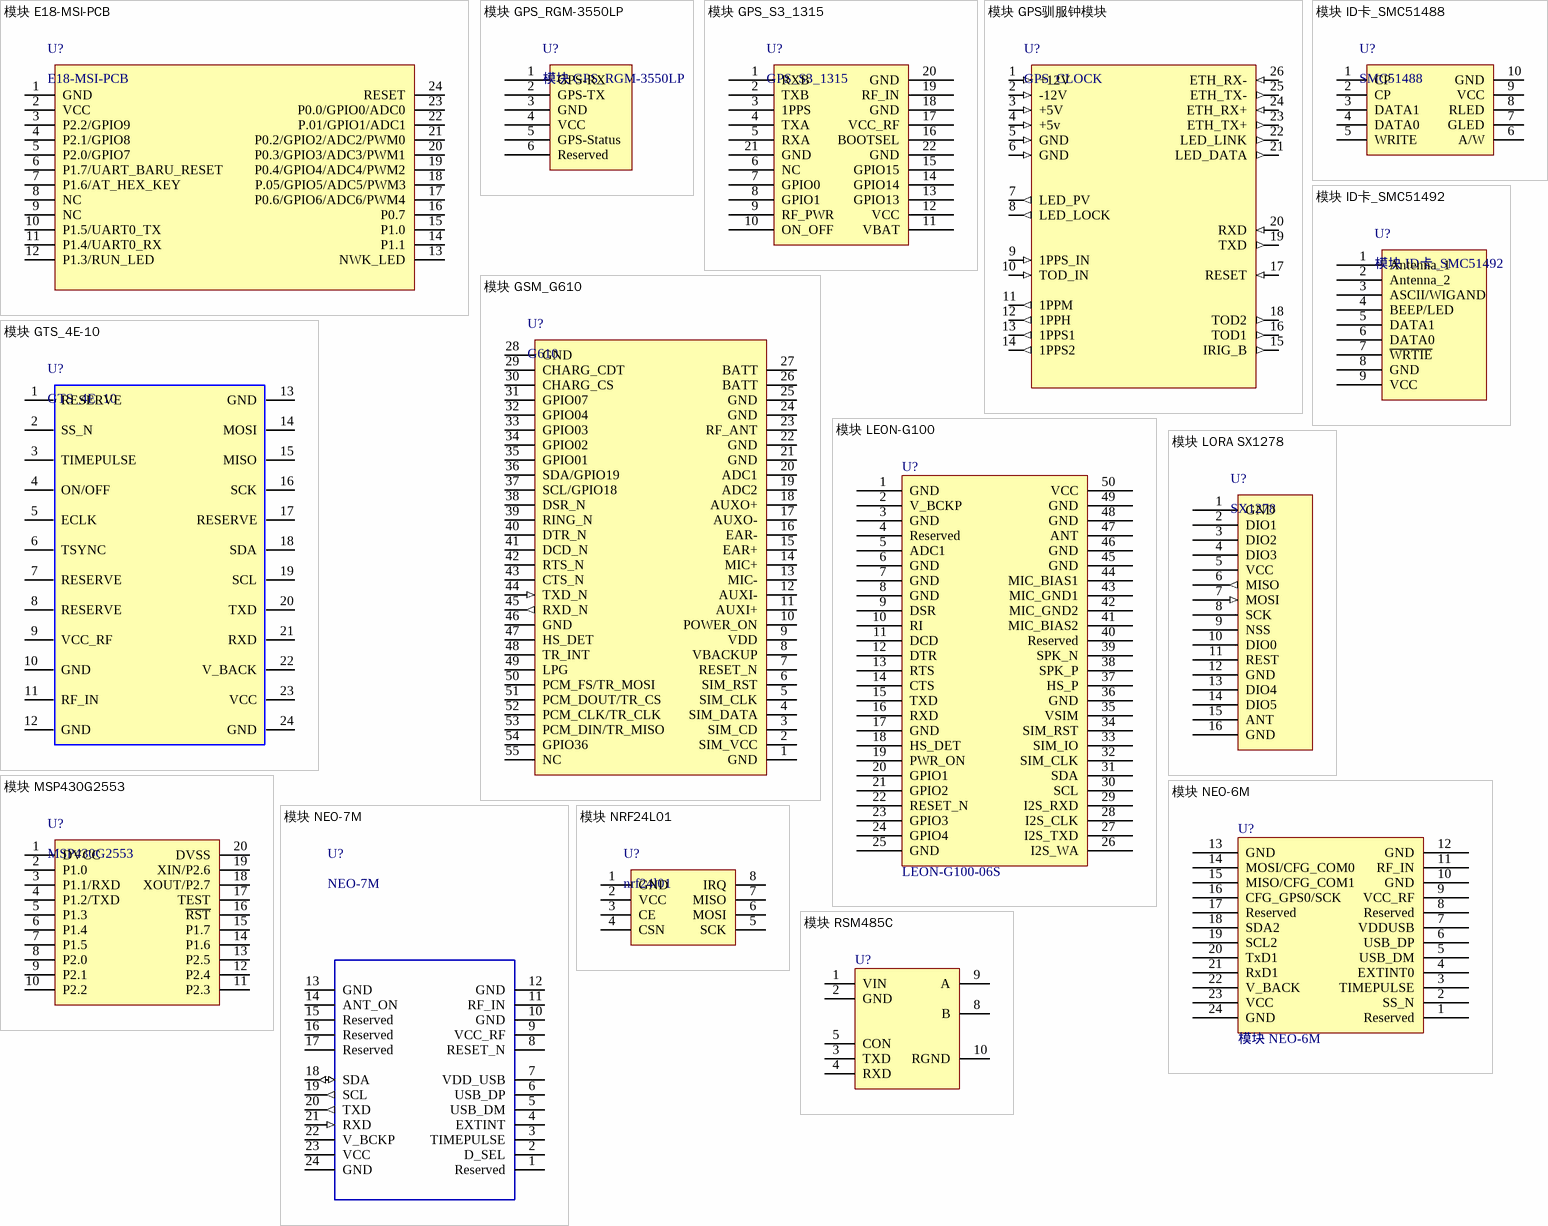
[diagram p4: symbols 模块 E18-MSI-PCB to 模块 RSM485C]

## 模块 E18-MSI-PCB
designator U?, comment E18-MSI-PCB
名称: 无线模块; 封装: DIP8; 单位: 个
footprint 模块 E18-MSI-PCB (Footprint not found)
pins: 1 GND, 2 VCC, 3 P2.2/GPIO9, 4 P2.1/GPIO8, 5 P2.0/GPIO7, 6 P1.7/UART_BARU_RESET, 7 P1.6/AT_HEX_KEY, 8 NC, 9 NC, 10 P1.5/UART0_TX, 11 P1.4/UART0_RX, 12 P1.3/RUN_LED, 13 NWK_LED, 14 P1.1, 15 P1.0, 16 P0.7, 17 P0.6/GPIO6/ADC6/PWM4, 18 P.05/GPIO5/ADC5/PWM3, 19 P0.4/GPIO4/ADC4/PWM2, 20 P0.3/GPIO3/ADC3/PWM1, 21 P0.2/GPIO2/ADC2/PWM0, 22 P.01/GPIO1/ADC1, 23 P0.0/GPIO0/ADC0, 24 RESET

## 模块 GPS_RGM-3550LP
designator U?
单位: 个; 封装: 线插; 名称: GPS模块
footprint 模块 GPS RGM-3550LP
pins: 1 GPS-RX, 2 GPS-TX, 3 GND, 4 VCC, 5 GPS-Status, 6 Reserved

## 模块 GPS_S3_1315
designator U?, comment GPS_S3_1315
footprint 模块 GPS S3_1315
pins: 1 RXB, 2 TXB, 3 1PPS, 4 TXA, 5 RXA, 6 NC, 7 GPIO0, 8 GPIO1, 9 RF_PWR, 10 ON_OFF, 11 VBAT, 12 VCC, 13 GPIO13, 14 GPIO14, 15 GPIO15, 16 BOOTSEL, 17 VCC_RF, 18 GND, 19 RF_IN, 20 GND, 21 GND, 22 GND

## 模块 GPS驯服钟模块
designator U?, comment GPS_CLOCK
封装: 分立; 名称: 模块; 单位: 个
footprint GPS_CLOCK
pins: 1 +12V (in), 2 -12V (in), 3 +5V (in), 4 +5v (in), 5 GND (in), 6 GND (in), 7 LED_PV (out), 8 LED_LOCK (out), 9 1PPS_IN (in), 10 TOD_IN (in), 11 1PPM (out), 12 1PPH (out), 13 1PPS1 (out), 14 1PPS2 (out), 15 IRIG_B (out), 16 TOD1 (out), 17 RESET (in), 18 TOD2 (out), 19 TXD (out), 20 RXD (in), 21 LED_DATA (out), 22 LED_LINK (out), 23 ETH_TX+ (out), 24 ETH_RX+ (in), 25 ETH_TX- (out), 26 ETH_RX- (in)

## 模块 GSM_G610
designator U?, comment G610
封装: 贴片; 单位: 模块; 名称: G610
footprint 模块 GSM G610
pins: 1 GND, 2 SIM_VCC, 3 SIM_CD, 4 SIM_DATA, 5 SIM_CLK, 6 SIM_RST, 7 RESET_N, 8 VBACKUP, 9 VDD, 10 POWER_ON, 11 AUXI+, 12 AUXI-, 13 MIC-, 14 MIC+, 15 EAR+, 16 EAR-, 17 AUXO-, 18 AUXO+, 19 ADC2, 20 ADC1, 21 GND, 22 GND, 23 RF_ANT, 24 GND, 25 GND, 26 BATT, 27 BATT, 28 GND, 29 CHARG_CDT, 30 CHARG_CS, 31 GPIO07, 32 GPIO04, 33 GPIO03, 34 GPIO02, 35 GPIO01, 36 SDA/GPIO19, 37 SCL/GPIO18, 38 DSR_N, 39 RING_N, 40 DTR_N, 41 DCD_N, 42 RTS_N, 43 CTS_N, 44 TXD_N (in), 45 RXD_N (out), 46 GND, 47 HS_DET, 48 TR_INT, 49 LPG, 50 PCM_FS/TR_MOSI, 51 PCM_DOUT/TR_CS, 52 PCM_CLK/TR_CLK, 53 PCM_DIN/TR_MISO, 54 GPIO36, 55 NC

## 模块 GTS_4E-10
designator U?, comment GTS_4E_10
名称: GTS-4E-10; 封装: 贴片; 单位: 模块
footprint 模块 GPS GTS-4E-10
pins: 1 RESERVE, 2 SS_N, 3 TIMEPULSE, 4 ON/OFF, 5 ECLK, 6 TSYNC, 7 RESERVE, 8 RESERVE, 9 VCC_RF, 10 GND, 11 RF_IN, 12 GND, 13 GND, 14 MOSI, 15 MISO, 16 SCK, 17 RESERVE, 18 SDA, 19 SCL, 20 TXD, 21 RXD, 22 V_BACK, 23 VCC, 24 GND

## 模块 ID卡_SMC51488
designator U?, comment SMC51488
单位: 个; 封装: 直插; 名称: ID读卡模块
footprint 模块 ID SMC51488
pins: 1 CP, 2 CP, 3 DATA1, 4 DATA0, 5 WRITE, 6 A/W, 7 GLED, 8 RLED, 9 VCC, 10 GND

## 模块 ID卡_SMC51492
designator U?
单位: 个; 封装: 直插; 名称: ID读卡模块
footprint 模块 ID SMC51492
pins: 1 Antenna_1, 2 Antenna_2, 3 ASCII/WIGAND, 4 BEEP/LED, 5 DATA1, 6 DATA0, 7 ~{WRTIE}, 8 GND, 9 VCC

## 模块 LEON-G100
designator U?, comment LEON-G100-06S
单位: 个; 封装: 贴片; 名称: GSM模块
footprint 模块 LEON G100
pins: 1 GND, 2 V_BCKP, 3 GND, 4 Reserved, 5 ADC1, 6 GND, 7 GND, 8 GND, 9 DSR, 10 RI, 11 DCD, 12 DTR, 13 RTS, 14 CTS, 15 TXD, 16 RXD, 17 GND, 18 HS_DET, 19 PWR_ON, 20 GPIO1, 21 GPIO2, 22 RESET_N, 23 GPIO3, 24 GPIO4, 25 GND, 26 I2S_WA, 27 I2S_TXD, 28 I2S_CLK, 29 I2S_RXD, 30 SCL, 31 SDA, 32 SIM_CLK, 33 SIM_IO, 34 SIM_RST, 35 VSIM, 36 GND, 37 HS_P, 38 SPK_P, 39 SPK_N, 40 Reserved, 41 MIC_BIAS2, 42 MIC_GND2, 43 MIC_GND1, 44 MIC_BIAS1, 45 GND, 46 GND, 47 ANT, 48 GND, 49 GND, 50 VCC

## 模块 LORA SX1278
designator U?, comment SX1278
单位: 个; 封装: 贴片; 名称: 模块 LORA SX1278
footprint LORA SX1278
pins: 1 GND, 2 DIO1, 3 DIO2, 4 DIO3, 5 VCC, 6 MISO (out), 7 MOSI (in), 8 SCK, 9 NSS, 10 DIO0, 11 REST, 12 GND, 13 DIO4, 14 DIO5, 15 ANT, 16 GND

## 模块 MSP430G2553
designator U?, comment MSP430G2553
footprint DIP20
pins: 1 DVCC, 2 P1.0, 3 P1.1/RXD, 4 P1.2/TXD, 5 P1.3, 6 P1.4, 7 P1.5, 8 P2.0, 9 P2.1, 10 P2.2, 11 P2.3, 12 P2.4, 13 P2.5, 14 P1.6, 15 P1.7, 16 ~{RST}, 17 TEST, 18 XOUT/P2.7, 19 XIN/P2.6, 20 DVSS

## 模块 NEO-6M
designator U?
单位: 个; 封装: 贴片; 名称: GPS模块
footprint 模块 GPS NEO-6
pins: 1 Reserved, 2 SS_N, 3 TIMEPULSE, 4 EXTINT0, 5 USB_DM, 6 USB_DP, 7 VDDUSB, 8 Reserved, 9 VCC_RF, 10 GND, 11 RF_IN, 12 GND, 13 GND, 14 MOSI/CFG_COM0, 15 MISO/CFG_COM1, 16 CFG_GPS0/SCK, 17 Reserved, 18 SDA2, 19 SCL2, 20 TxD1, 21 RxD1, 22 V_BACK, 23 VCC, 24 GND

## 模块 NEO-7M
designator U?, comment NEO-7M
名称: GTS-4E-10; 封装: 贴片; 单位: 模块
footprint 模块 GPS GTS-4E-10
pins: 1 Reserved, 2 D_SEL, 3 TIMEPULSE, 4 EXTINT, 5 USB_DM, 6 USB_DP, 7 VDD_USB, 8 RESET_N, 9 VCC_RF, 10 GND, 11 RF_IN, 12 GND, 13 GND, 14 ANT_ON, 15 Reserved, 16 Reserved, 17 Reserved, 18 SDA (io), 19 SCL (out), 20 TXD (out), 21 RXD (in), 22 V_BCKP, 23 VCC, 24 GND

## 模块 NRF24L01
designator U?, comment nrf24l01
名称: 无线模块; 封装: DIP8; 单位: 个
footprint 模块 NRF24L01
pins: 1 GND, 2 VCC, 3 CE, 4 CSN, 5 SCK, 6 MOSI, 7 MISO, 8 IRQ

## 模块 RSM485C
designator U?
footprint RSM485
pins: 1 VIN, 2 GND, 3 TXD, 4 RXD, 5 CON, 8 B, 9 A, 10 RGND
2 alternate drawings of the same symbol

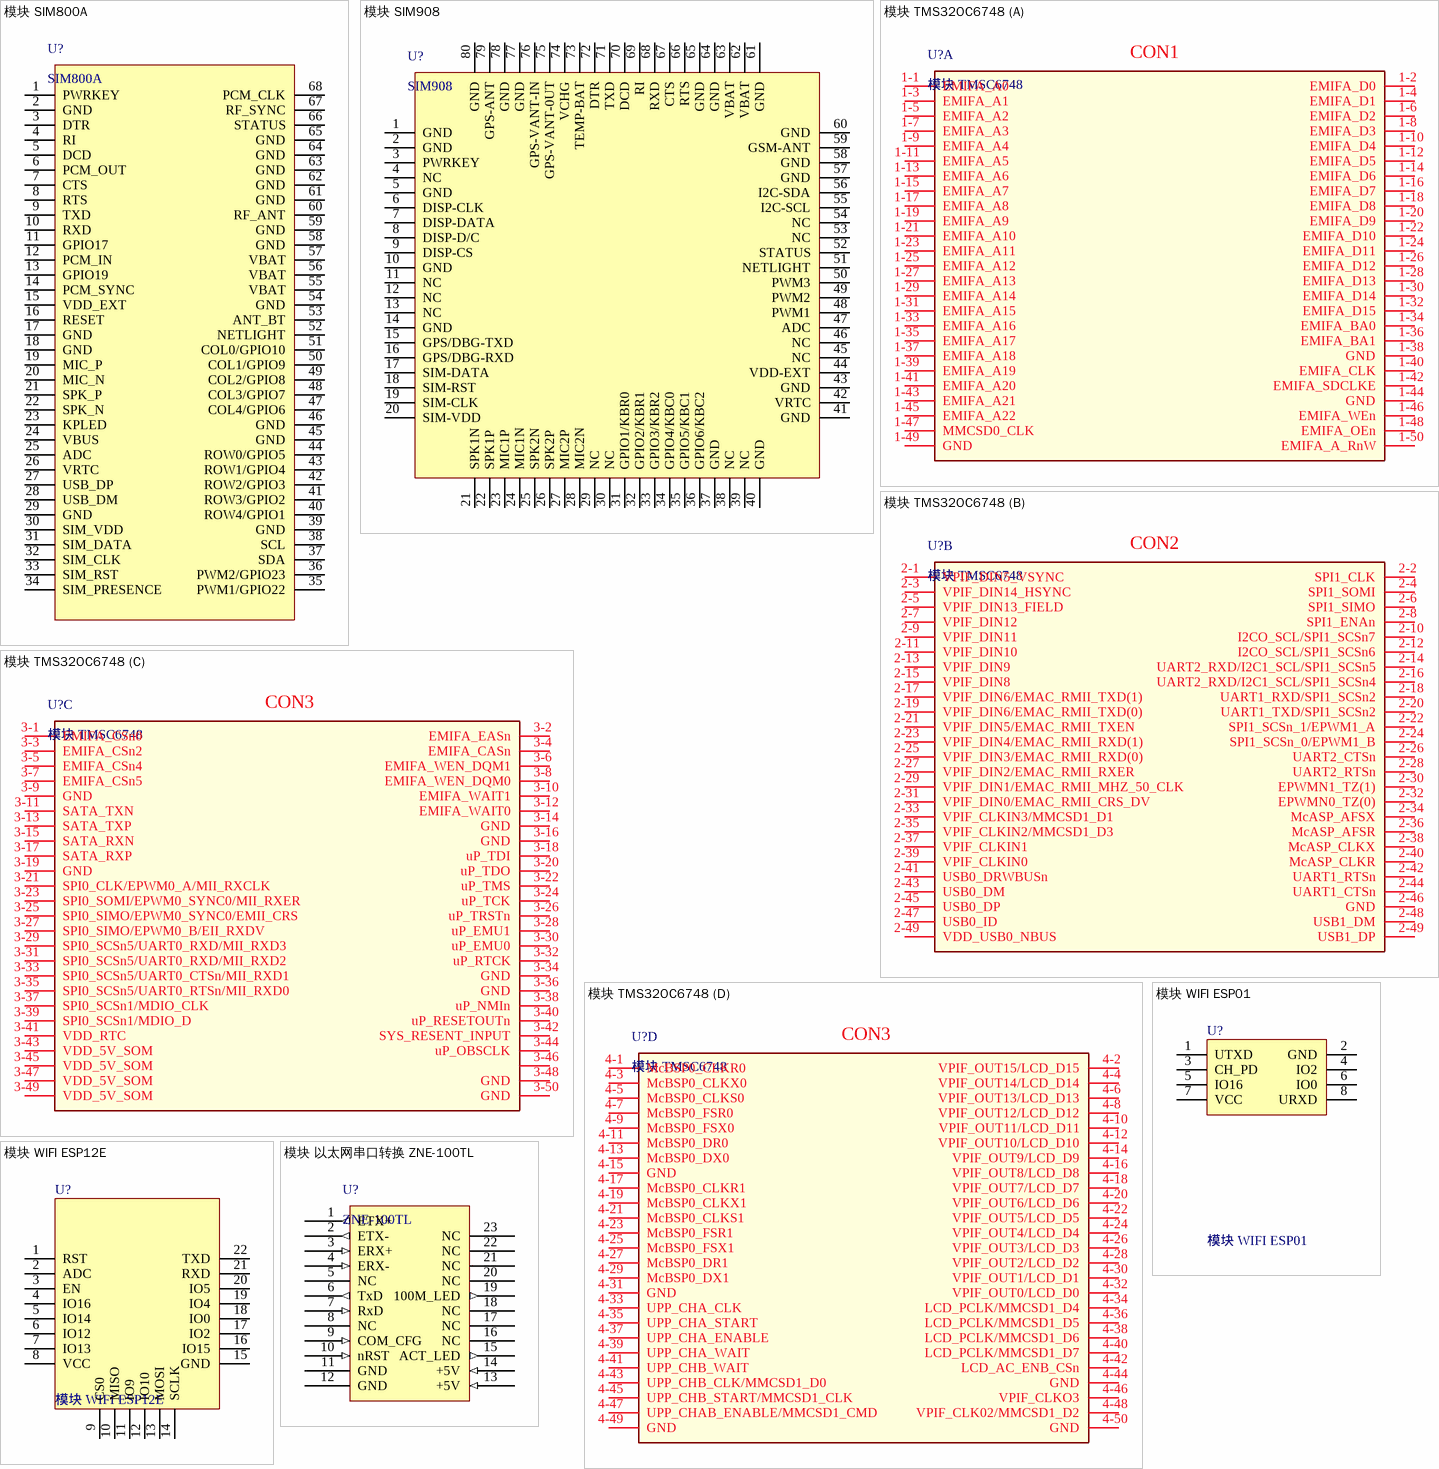
[diagram p5: symbols 模块 SIM800A to 模块 以太网串口转换 ZNE-100TL]

## 模块 SIM800A
designator U?, comment SIM800A
封装: 贴片; 单位: 模块; 名称: SIM800A
footprint 模块 SIM800A
pins: 1 PWRKEY, 2 GND, 3 DTR, 4 RI, 5 DCD, 6 PCM_OUT, 7 CTS, 8 RTS, 9 TXD, 10 RXD, 11 GPIO17, 12 PCM_IN, 13 GPIO19, 14 PCM_SYNC, 15 VDD_EXT, 16 RESET, 17 GND, 18 GND, 19 MIC_P, 20 MIC_N, 21 SPK_P, 22 SPK_N, 23 KPLED, 24 VBUS, 25 ADC, 26 VRTC, 27 USB_DP, 28 USB_DM, 29 GND, 30 SIM_VDD, 31 SIM_DATA, 32 SIM_CLK, 33 SIM_RST, 34 SIM_PRESENCE, 35 PWM1/GPIO22, 36 PWM2/GPIO23, 37 SDA, 38 SCL, 39 GND, 40 ROW4/GPIO1, 41 ROW3/GPIO2, 42 ROW2/GPIO3, 43 ROW1/GPIO4, 44 ROW0/GPIO5, 45 GND, 46 GND, 47 COL4/GPIO6, 48 COL3/GPIO7, 49 COL2/GPIO8, 50 COL1/GPIO9, 51 COL0/GPIO10, 52 NETLIGHT, 53 ANT_BT, 54 GND, 55 VBAT, 56 VBAT, 57 VBAT, 58 GND, 59 GND, 60 RF_ANT, 61 GND, 62 GND, 63 GND, 64 GND, 65 GND, 66 STATUS, 67 RF_SYNC, 68 PCM_CLK

## 模块 SIM908
designator U?, comment SIM908
封装: 贴片; 单位: 模块; 名称: SIM908
footprint 模块 SIM908
pins: 1 GND, 2 GND, 3 PWRKEY, 4 NC, 5 GND, 6 DISP-CLK, 7 DISP-DATA, 8 DISP-D/C, 9 DISP-CS, 10 GND, 11 NC, 12 NC, 13 NC, 14 GND, 15 GPS/DBG-TXD, 16 GPS/DBG-RXD, 17 SIM-DATA, 18 SIM-RST, 19 SIM-CLK, 20 SIM-VDD, 21 SPK1N, 22 SPK1P, 23 MIC1P, 24 MIC1N, 25 SPK2N, 26 SPK2P, 27 MIC2P, 28 MIC2N, 29 NC, 30 NC, 31 GPIO1/KBR0, 32 GPIO2/KBR1, 33 GPIO3/KBR2, 34 GPIO4/KBC0, 35 GPIO5/KBC1, 36 GPIO6/KBC2, 37 GND, 38 NC, 39 NC, 40 GND, 41 GND, 42 VRTC, 43 GND, 44 VDD-EXT, 45 NC, 46 NC, 47 ADC, 48 PWM1, 49 PWM2, 50 PWM3, 51 NETLIGHT, 52 STATUS, 53 NC, 54 NC, 55 I2C-SCL, 56 I2C-SDA, 57 GND, 58 GND, 59 GSM-ANT, 60 GND, 61 GND, 62 VBAT, 63 VBAT, 64 GND, 65 GND, 66 RTS, 67 CTS, 68 RXD, 69 RI, 70 DCD, 71 TXD, 72 DTR, 73 TEMP-BAT, 74 VCHG, 75 GPS-VANT-0UT, 76 GPS-VANT-IN, 77 GND, 78 GND, 79 GPS-ANT, 80 GND

## 模块 TMS32OC6748
designator U?, comment 模块 TMSC6748
part A pins: 1-1 EMIFA_A0, 1-2 EMIFA_D0, 1-3 EMIFA_A1, 1-4 EMIFA_D1, 1-5 EMIFA_A2, 1-6 EMIFA_D2, 1-7 EMIFA_A3, 1-8 EMIFA_D3, 1-9 EMIFA_A4, 1-10 EMIFA_D4, 1-11 EMIFA_A5, 1-12 EMIFA_D5, 1-13 EMIFA_A6, 1-14 EMIFA_D6, 1-15 EMIFA_A7, 1-16 EMIFA_D7, 1-17 EMIFA_A8, 1-18 EMIFA_D8, 1-19 EMIFA_A9, 1-20 EMIFA_D9, 1-21 EMIFA_A10, 1-22 EMIFA_D10, 1-23 EMIFA_A11, 1-24 EMIFA_D11, 1-25 EMIFA_A12, 1-26 EMIFA_D12, 1-27 EMIFA_A13, 1-28 EMIFA_D13, 1-29 EMIFA_A14, 1-30 EMIFA_D14, 1-31 EMIFA_A15, 1-32 EMIFA_D15, 1-33 EMIFA_A16, 1-34 EMIFA_BA0, 1-35 EMIFA_A17, 1-36 EMIFA_BA1, 1-37 EMIFA_A18, 1-38 GND, 1-39 EMIFA_A19, 1-40 EMIFA_CLK, 1-41 EMIFA_A20, 1-42 EMIFA_SDCLKE, 1-43 EMIFA_A21, 1-44 GND, 1-45 EMIFA_A22, 1-46 EMIFA_WEn, 1-47 MMCSD0_CLK, 1-48 EMIFA_OEn, 1-49 GND, 1-50 EMIFA_A_RnW
part B pins: 2-1 VPIF_DIN5_VSYNC, 2-2 SPI1_CLK, 2-3 VPIF_DIN14_HSYNC, 2-4 SPI1_SOMI, 2-5 VPIF_DIN13_FIELD, 2-6 SPI1_SIMO, 2-7 VPIF_DIN12, 2-8 SPI1_ENAn, 2-9 VPIF_DIN11, 2-10 I2CO_SCL/SPI1_SCSn7, 2-11 VPIF_DIN10, 2-12 I2CO_SCL/SPI1_SCSn6, 2-13 VPIF_DIN9, 2-14 UART2_RXD/I2C1_SCL/SPI1_SCSn5, 2-15 VPIF_DIN8, 2-16 UART2_RXD/I2C1_SCL/SPI1_SCSn4, 2-17 VPIF_DIN6/EMAC_RMII_TXD(1), 2-18 UART1_RXD/SPI1_SCSn2, 2-19 VPIF_DIN6/EMAC_RMII_TXD(0), 2-20 UART1_TXD/SPI1_SCSn2, 2-21 VPIF_DIN5/EMAC_RMII_TXEN, 2-22 SPI1_SCSn_1/EPWM1_A, 2-23 VPIF_DIN4/EMAC_RMII_RXD(1), 2-24 SPI1_SCSn_0/EPWM1_B, 2-25 VPIF_DIN3/EMAC_RMII_RXD(0), 2-26 UART2_CTSn, 2-27 VPIF_DIN2/EMAC_RMII_RXER, 2-28 UART2_RTSn, 2-29 VPIF_DIN1/EMAC_RMII_MHZ_50_CLK, 2-30 EPWMN1_TZ(1), 2-31 VPIF_DIN0/EMAC_RMII_CRS_DV, 2-32 EPWMN0_TZ(0), 2-33 VPIF_CLKIN3/MMCSD1_D1, 2-34 McASP_AFSX, 2-35 VPIF_CLKIN2/MMCSD1_D3, 2-36 McASP_AFSR, 2-37 VPIF_CLKIN1, 2-38 McASP_CLKX, 2-39 VPIF_CLKIN0, 2-40 McASP_CLKR, 2-41 USB0_DRWBUSn, 2-42 UART1_RTSn, 2-43 USB0_DM, 2-44 UART1_CTSn, 2-45 USB0_DP, 2-46 GND, 2-47 USB0_ID, 2-48 USB1_DM, 2-49 VDD_USB0_NBUS, 2-49 USB1_DP
part C pins: 3-1 EMIFA_CSn0, 3-2 EMIFA_EASn, 3-3 EMIFA_CSn2, 3-4 EMIFA_CASn, 3-5 EMIFA_CSn4, 3-6 EMIFA_WEN_DQM1, 3-7 EMIFA_CSn5, 3-8 EMIFA_WEN_DQM0, 3-9 GND, 3-10 EMIFA_WAIT1, 3-11 SATA_TXN, 3-12 EMIFA_WAIT0, 3-13 SATA_TXP, 3-14 GND, 3-15 SATA_RXN, 3-16 GND, 3-17 SATA_RXP, 3-18 uP_TDI, 3-19 GND, 3-20 uP_TDO, 3-21 SPI0_CLK/EPWM0_A/MII_RXCLK, 3-22 uP_TMS, 3-23 SPI0_SOMI/EPWM0_SYNC0/MII_RXER, 3-24 uP_TCK, 3-25 SPI0_SIMO/EPWM0_SYNC0/EMII_CRS, 3-26 uP_TRSTn, 3-27 SPI0_SIMO/EPWM0_B/EII_RXDV, 3-28 uP_EMU1, 3-29 SPI0_SCSn5/UART0_RXD/MII_RXD3, 3-30 uP_EMU0, 3-31 SPI0_SCSn5/UART0_RXD/MII_RXD2, 3-32 uP_RTCK, 3-33 SPI0_SCSn5/UART0_CTSn/MII_RXD1, 3-34 GND, 3-35 SPI0_SCSn5/UART0_RTSn/MII_RXD0, 3-36 GND, 3-37 SPI0_SCSn1/MDIO_CLK, 3-38 uP_NMIn, 3-39 SPI0_SCSn1/MDIO_D, 3-40 uP_RESETOUTn, 3-41 VDD_RTC, 3-42 SYS_RESENT_INPUT, 3-43 VDD_5V_SOM, 3-44 uP_OBSCLK, 3-45 VDD_5V_SOM, 3-46, 3-47 VDD_5V_SOM, 3-48 GND, 3-49 VDD_5V_SOM, 3-50 GND
part D pins: 4-1 McBSP0_CLKR0, 4-2 VPIF_OUT15/LCD_D15, 4-3 McBSP0_CLKX0, 4-4 VPIF_OUT14/LCD_D14, 4-5 McBSP0_CLKS0, 4-6 VPIF_OUT13/LCD_D13, 4-7 McBSP0_FSR0, 4-8 VPIF_OUT12/LCD_D12, 4-9 McBSP0_FSX0, 4-10 VPIF_OUT11/LCD_D11, 4-11 McBSP0_DR0, 4-12 VPIF_OUT10/LCD_D10, 4-13 McBSP0_DX0, 4-14 VPIF_OUT9/LCD_D9, 4-15 GND, 4-16 VPIF_OUT8/LCD_D8, 4-17 McBSP0_CLKR1, 4-18 VPIF_OUT7/LCD_D7, 4-19 McBSP0_CLKX1, 4-20 VPIF_OUT6/LCD_D6, 4-21 McBSP0_CLKS1, 4-22 VPIF_OUT5/LCD_D5, 4-23 McBSP0_FSR1, 4-24 VPIF_OUT4/LCD_D4, 4-25 McBSP0_FSX1, 4-26 VPIF_OUT3/LCD_D3, 4-27 McBSP0_DR1, 4-28 VPIF_OUT2/LCD_D2, 4-29 McBSP0_DX1, 4-30 VPIF_OUT1/LCD_D1, 4-31 GND, 4-32 VPIF_OUT0/LCD_D0, 4-33 UPP_CHA_CLK, 4-34 LCD_PCLK/MMCSD1_D4, 4-35 UPP_CHA_START, 4-36 LCD_PCLK/MMCSD1_D5, 4-37 UPP_CHA_ENABLE, 4-38 LCD_PCLK/MMCSD1_D6, 4-39 UPP_CHA_WAIT, 4-40 LCD_PCLK/MMCSD1_D7, 4-41 UPP_CHB_WAIT, 4-42 LCD_AC_ENB_CSn, 4-43 UPP_CHB_CLK/MMCSD1_D0, 4-44 GND, 4-45 UPP_CHB_START/MMCSD1_CLK, 4-46 VPIF_CLKO3, 4-47 UPP_CHAB_ENABLE/MMCSD1_CMD, 4-48 VPIF_CLK02/MMCSD1_D2, 4-49 GND, 4-50 GND
part A text: CON1
part B text: CON2
part C text: CON3
part D text: CON3

## 模块 WIFI ESP01
designator U?
单位: 个; 封装: 直插; 名称: WIFI模块
footprint 模块 WIFI ESP01
pins: 1 UTXD, 2 GND, 3 CH_PD, 4 IO2, 5 IO16, 6 IO0, 7 VCC, 8 URXD

## 模块 WIFI ESP12E
designator U?
单位: 个; 封装: 表贴; 名称: WIFI模块
footprint 模块 WIFI ESP12E (Footprint not found)
pins: 1 RST, 2 ADC, 3 EN, 4 IO16, 5 IO14, 6 IO12, 7 IO13, 8 VCC, 9 CS0, 10 MISO, 11 IO9, 12 IO10, 13 MOSI, 14 SCLK, 15 GND, 16 IO15, 17 IO2, 18 IO0, 19 IO4, 20 IO5, 21 RXD, 22 TXD

## 模块 以太网串口转换 ZNE-100TL
designator U?, comment ZNE-100TL
单位: 个; 封转: 直插; 名称: 以太网串口转换模块
footprint ZNE-100TL
pins: 1 ETX+ (out), 2 ETX- (out), 3 ERX+ (in), 4 ERX- (in), 5 NC, 6 TxD (out), 7 RxD (in), 8 NC, 9 COM_CFG (in), 10 nRST (in), 11 GND, 12 GND, 13 +5V (in), 14 +5V (in), 15 ACT_LED (out), 16 NC, 17 NC, 18 NC, 19 100M_LED (out), 20 NC, 21 NC, 22 NC, 23 NC

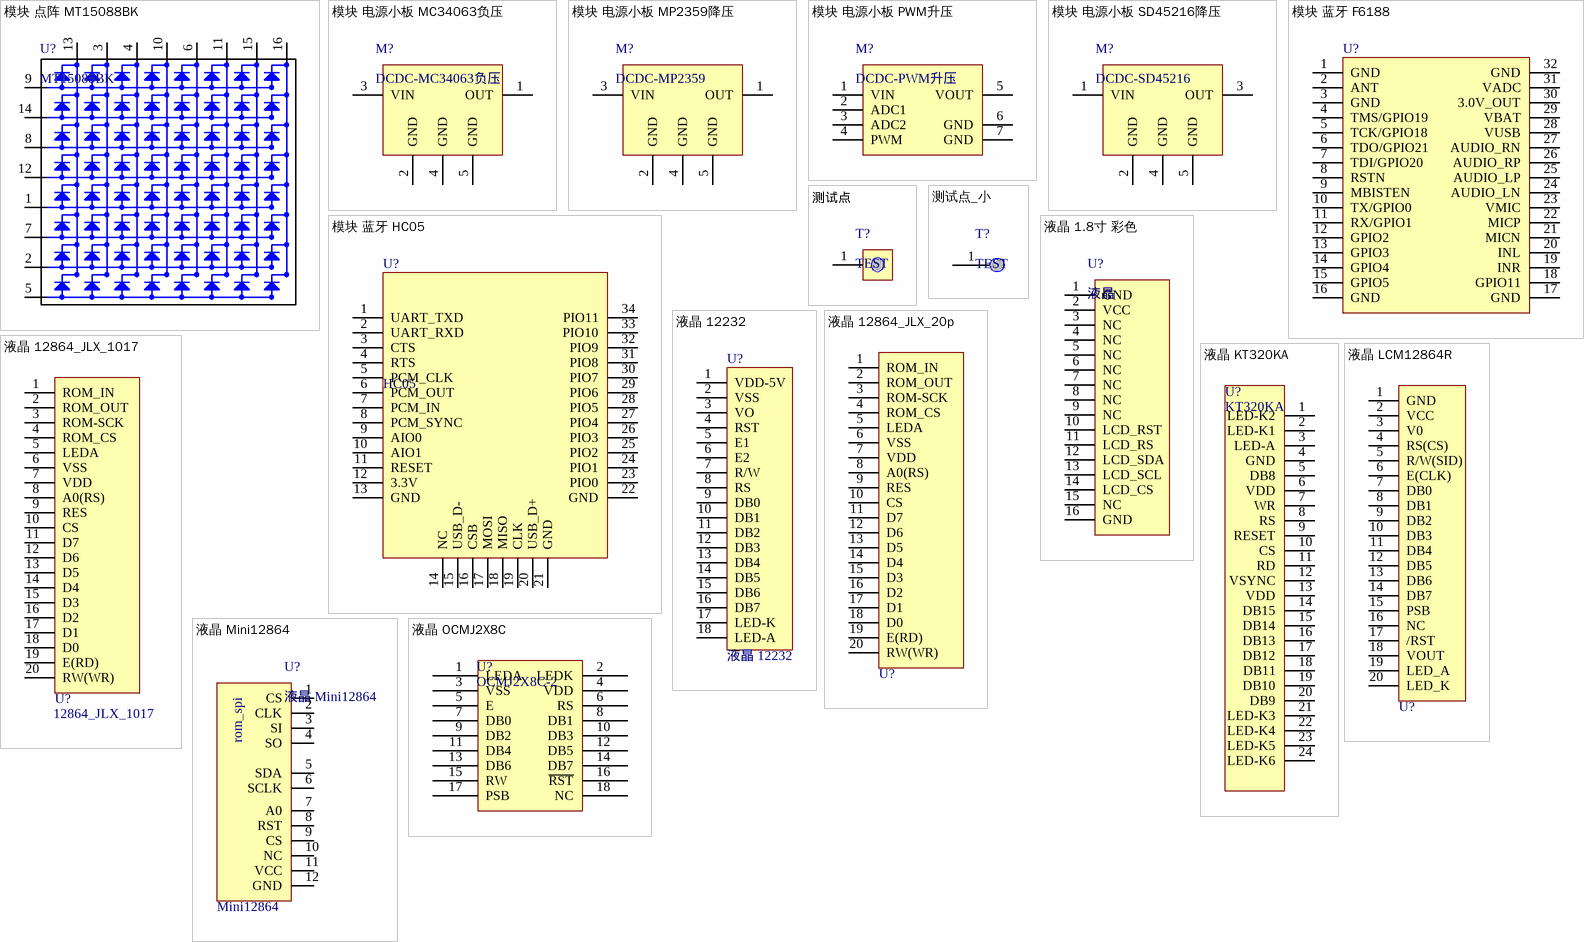
[diagram p6: symbols 模块 点阵 MT15088BK to 液晶 OCMJ2X8C]

## 模块 点阵 MT15088BK
designator U?, comment MT15088BK
单位: 个; 封装: 直插; 名称: 点阵模块
footprint 模块 点阵 MT15088BK
pins: 1, 2, 3, 4, 5, 6, 7, 8, 9, 10, 11, 12, 13, 14, 15, 16

## 模块 电源小板 MC34063负压
designator M?, comment DCDC-MC34063负压
单位: 个; 名称: DCDC模块; 封装: 直插
footprint 模块 电源小板 MC34063负压 (Footprint not found)
pins: 1 OUT, 2 GND, 3 VIN, 4 GND, 5 GND

## 模块 电源小板 MP2359降压
designator M?, comment DCDC-MP2359
单位: 个; 名称: DCDC模块; 封装: 直插
footprint 模块 电源小板 MP2359降压
pins: 1 OUT, 2 GND, 3 VIN, 4 GND, 5 GND

## 模块 电源小板 PWM升压
designator M?, comment DCDC-PWM升压
单位: 个; 名称: DCDC模块; 封装: 直插
footprint 模块 电源小板 PWM升压 (Footprint not found)
pins: 1 VIN, 2 ADC1, 3 ADC2, 4 PWM, 5 VOUT, 6 GND, 7 GND

## 模块 电源小板 SD45216降压
designator M?, comment DCDC-SD45216
单位: 个; 名称: DCDC模块; 封装: 直插
footprint 模块 电源小板 SD45216降压 (Footprint not found)
pins: 1 VIN, 2 GND, 3 OUT, 4 GND, 5 GND

## 模块 蓝牙 F6188
designator U?
单位: 个; 封装: 贴片; 名称: 模块
footprint 模块 蓝牙 F6188
pins: 1 GND, 2 ANT, 3 GND, 4 TMS/GPIO19, 5 TCK/GPIO18, 6 TDO/GPIO21, 7 TDI/GPIO20, 8 RSTN, 9 MBISTEN, 10 TX/GPIO0, 11 RX/GPIO1, 12 GPIO2, 13 GPIO3, 14 GPIO4, 15 GPIO5, 16 GND, 17 GND, 18 GPIO11, 19 INR, 20 INL, 21 MICN, 22 MICP, 23 VMIC, 24 AUDIO_LN, 25 AUDIO_LP, 26 AUDIO_RP, 27 AUDIO_RN, 28 VUSB, 29 VBAT, 30 3.0V_OUT, 31 VADC, 32 GND
2 alternate drawings of the same symbol

## 模块 蓝牙 HC05
designator U?, comment HC05
单位: 个; 封装: 贴片; 名称: 模块
footprint 模块 蓝牙 HC05 (Footprint not found)
pins: 1 UART_TXD, 2 UART_RXD, 3 CTS, 4 RTS, 5 PCM_CLK, 6 PCM_OUT, 7 PCM_IN, 8 PCM_SYNC, 9 AIO0, 10 AIO1, 11 RESET, 12 3.3V, 13 GND, 14 NC, 15 USB_D-, 16 CSB, 17 MOSI, 18 MISO, 19 CLK, 20 USB_D+, 21 GND, 22 GND, 23 PIO0, 24 PIO1, 25 PIO2, 26 PIO3, 27 PIO4, 28 PIO5, 29 PIO6, 30 PIO7, 31 PIO8, 32 PIO9, 33 PIO10, 34 PIO11
2 alternate drawings of the same symbol

## 测试点
designator T?, comment TEST
单位: 个; 名称: 测试点; 封装: 直插
footprint 测试点
pins: 1

## 测试点_小
designator T?, comment TEST
单位: 个; 名称: 测试点; 封装: 直插
footprint 测试点（圆形）
pins: 1

## 液晶 1.8寸 彩色
designator U?, comment 液晶
封装: 直插; 单位: 块; 名称: 液晶屏
footprint 液晶  1.8寸 彩色
pins: 1 GND, 2 VCC, 3 NC, 4 NC, 5 NC, 6 NC, 7 NC, 8 NC, 9 NC, 10 LCD_RST, 11 LCD_RS, 12 LCD_SDA, 13 LCD_SCL, 14 LCD_CS, 15 NC, 16 GND

## 液晶 12232
designator U?
单位: 个; 名称: 液晶链接座; 封装: 贴片
footprint 液晶 122*32
pins: 1 VDD-5V, 2 VSS, 3 VO, 4 RST, 5 E1, 6 E2, 7 R/W, 8 RS, 9 DB0, 10 DB1, 11 DB2, 12 DB3, 13 DB4, 14 DB5, 15 DB6, 16 DB7, 17 LED-K, 18 LED-A

## 液晶 12864_JLX_20p
designator U?  (value not drawn)
单位: 个; 封装: 直插; 名称: 液晶
footprint 液晶 JLX128*64-20P
pins: 1 ROM_IN, 2 ROM_OUT, 3 ROM-SCK, 4 ROM_CS, 5 LEDA, 6 VSS, 7 VDD, 8 A0(RS), 9 RES, 10 CS, 11 D7, 12 D6, 13 D5, 14 D4, 15 D3, 16 D2, 17 D1, 18 D0, 19 E(RD), 20 RW(WR)

## 液晶 12864_JLX_1017
designator U?, comment 12864_JLX_1017
单位: 个; 名称: JLX12864-1017-PN; 封装: 直插
footprint 液晶 JLX12864G-1017
pins: 1 ROM_IN, 2 ROM_OUT, 3 ROM-SCK, 4 ROM_CS, 5 LEDA, 6 VSS, 7 VDD, 8 A0(RS), 9 RES, 10 CS, 11 D7, 12 D6, 13 D5, 14 D4, 15 D3, 16 D2, 17 D1, 18 D0, 19 E(RD), 20 RW(WR)

## 液晶 KT320KA
designator U?, comment KT320KA
名称: 液晶; 单位: 个; 封装: KT320KA
footprint OCMJ2X8C
footprint 液晶 KT320A_AXK8L24125BG
pins: 1 LED-K2, 2 LED-K1, 3 LED-A, 4 GND, 5 DB8, 6 VDD, 7 WR, 8 RS, 9 RESET, 10 CS, 11 RD, 12 VSYNC, 13 VDD, 14 DB15, 15 DB14, 16 DB13, 17 DB12, 18 DB11, 19 DB10, 20 DB9, 21 LED-K3, 22 LED-K4, 23 LED-K5, 24 LED-K6

## 液晶 LCM12864R
designator U?  (value not drawn)
单位: 个; 封装: 直插; 名称: 液晶
footprint 液晶 LCM12864R
pins: 1 GND, 2 VCC, 3 V0, 4 RS(CS), 5 R/W(SID), 6 E(CLK), 7 DB0, 8 DB1, 9 DB2, 10 DB3, 11 DB4, 12 DB5, 13 DB6, 14 DB7, 15 PSB, 16 NC, 17 /RST, 18 VOUT, 19 LED_A, 20 LED_K

## 液晶 Mini12864
designator U?
单位: 块; 封装: 直插; 名称: 液晶
footprint RT1602C
footprint 液晶 Mini12864
pins: 1 CS, 2 CLK, 3 SI, 4 SO, 5 SDA, 6 SCLK, 7 A0, 8 RST, 9 CS, 10 NC, 11 VCC, 12 GND
text: rom_spi; Mini12864

## 液晶 OCMJ2X8C
designator U?, comment OCMJ2X8C-2
名称: 液晶; 封装: 直插; 单位: 个
footprint OCMJ2X8C
footprint 液晶  OCMJ2X8C
pins: 1 LEDA, 2 LEDK, 3 VSS, 4 VDD, 5 E, 6 RS, 7 DB0, 8 DB1, 9 DB2, 10 DB3, 11 DB4, 12 DB5, 13 DB6, 14 DB7, 15 RW, 16 ~{RST}, 17 PSB, 18 NC

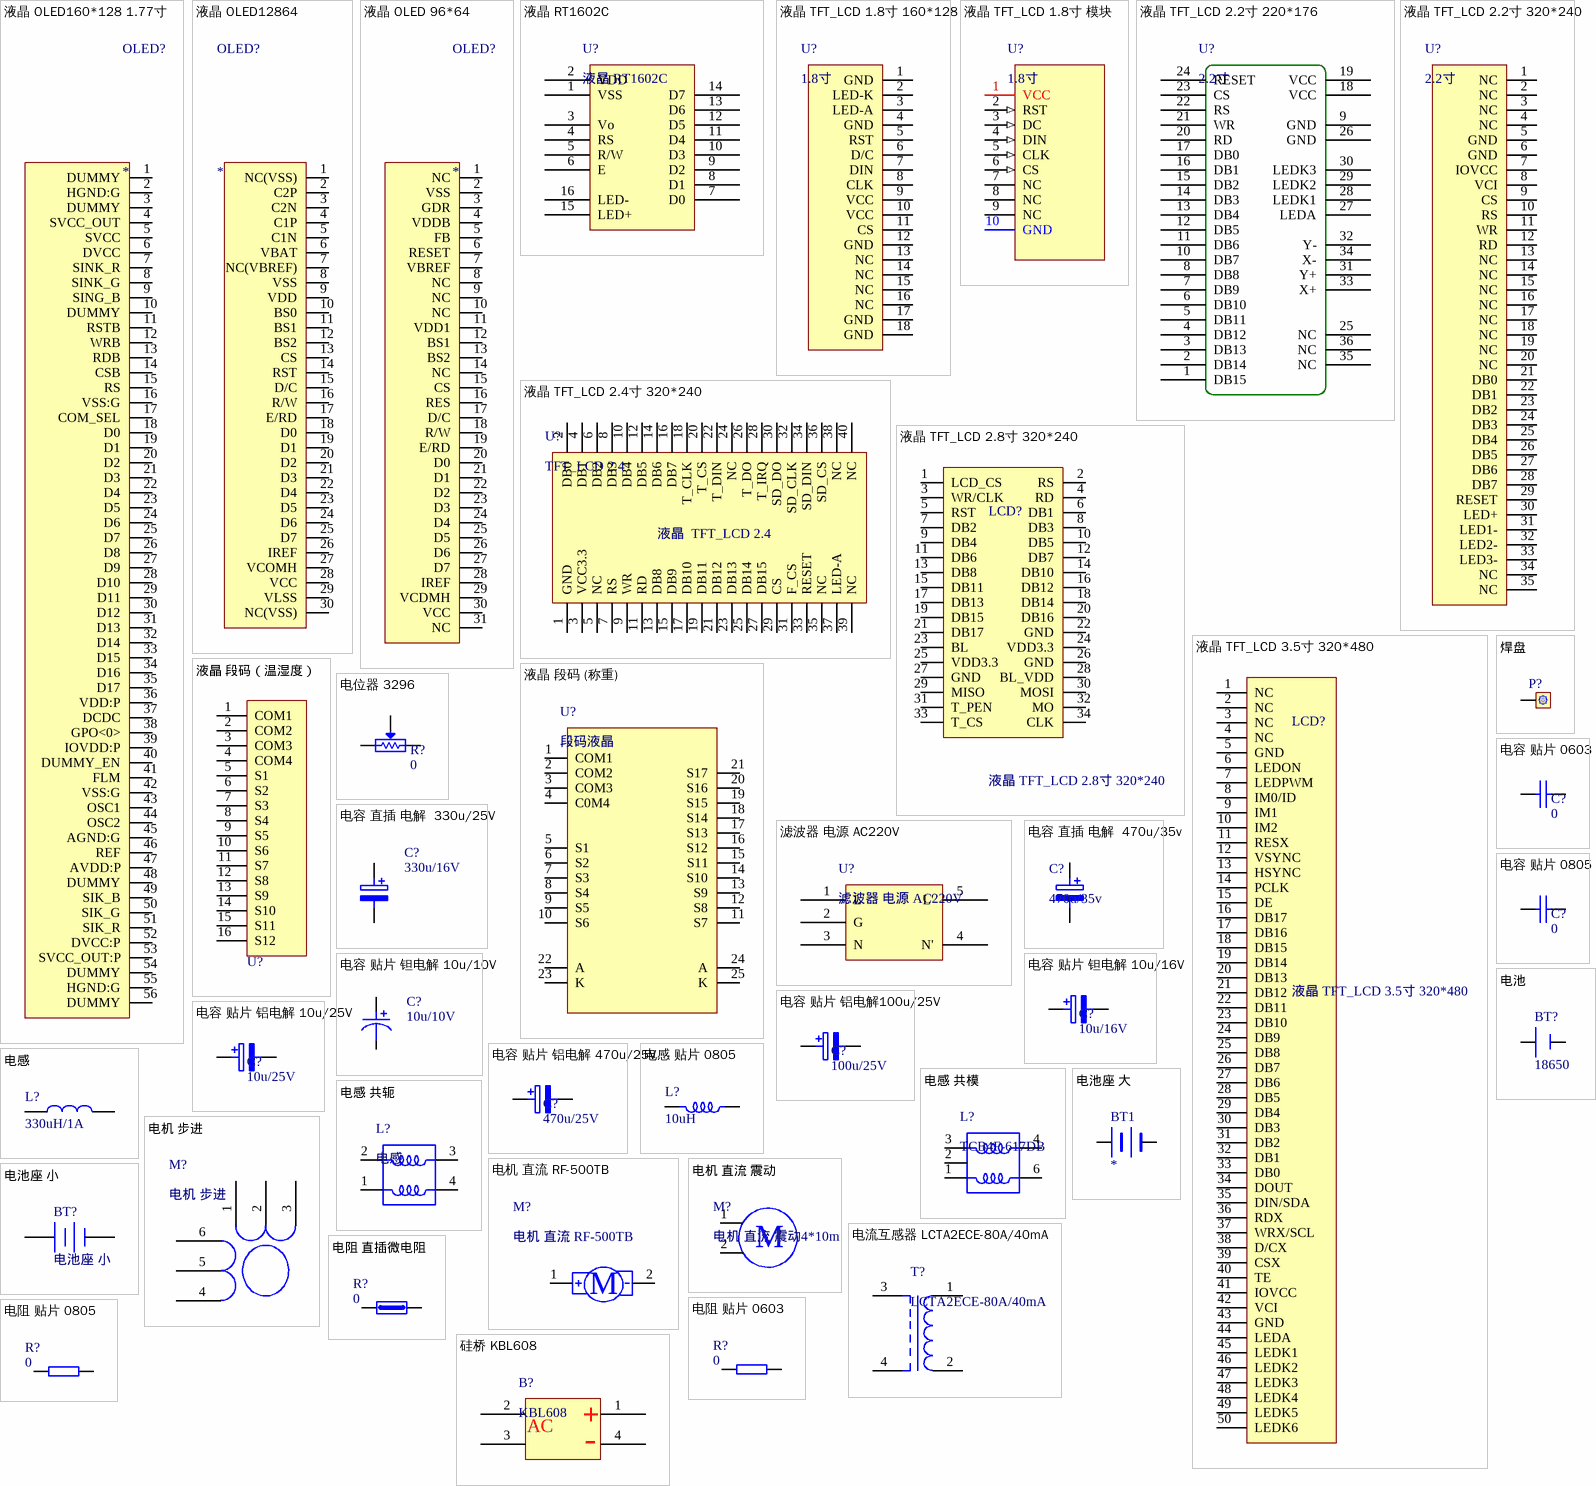
[diagram p7: symbols 液晶 OLED160*128 1.77寸 to 硅桥 KBL608]

## 液晶 OLED160*128 1.77寸
designator OLED?
单位: 片; 封装: 贴片; 名称: 液晶
footprint 液晶 OLED_1.77
pins: 1 DUMMY, 2 HGND:G, 3 DUMMY, 4 SVCC_OUT, 5 SVCC, 6 DVCC, 7 SINK_R, 8 SINK_G, 9 SING_B, 10 DUMMY, 11 RSTB, 12 WRB, 13 RDB, 14 CSB, 15 RS, 16 VSS:G, 17 COM_SEL, 18 D0, 19 D1, 20 D2, 21 D3, 22 D4, 23 D5, 24 D6, 25 D7, 26 D8, 27 D9, 28 D10, 29 D11, 30 D12, 31 D13, 32 D14, 33 D15, 34 D16, 35 D17, 36 VDD:P, 37 DCDC, 38 GPO<0>, 39 IOVDD:P, 40 DUMMY_EN, 41 FLM, 42 VSS:G, 43 OSC1, 44 OSC2, 45 AGND:G, 46 REF, 47 AVDD:P, 48 DUMMY, 49 SIK_B, 50 SIK_G, 51 SIK_R, 52 DVCC:P, 53 SVCC_OUT:P, 54 DUMMY, 55 HGND:G, 56 DUMMY
2 alternate drawings of the same symbol

## 液晶 OLED12864
designator OLED?
单位: 片; 封装: 贴片; 名称: 液晶
footprint 液晶 OLED_0.96
pins: 1 NC(VSS), 2 C2P, 3 C2N, 4 C1P, 5 C1N, 6 VBAT, 7 NC(VBREF), 8 VSS, 9 VDD, 10 BS0, 11 BS1, 12 BS2, 13 CS, 14 RST, 15 D/C, 16 R/W, 17 E/RD, 18 D0, 19 D1, 20 D2, 21 D3, 22 D4, 23 D5, 24 D6, 25 D7, 26 IREF, 27 VCOMH, 28 VCC, 29 VLSS, 30 NC(VSS)
2 alternate drawings of the same symbol

## 液晶 OLED 96*64
designator OLED?
单位: 片; 封装: 贴片; 名称: 液晶
footprint 液晶 OLED_96*64 (Footprint not found)
pins: 1 NC, 2 VSS, 3 GDR, 4 VDDB, 5 FB, 6 RESET, 7 VBREF, 8 NC, 9 NC, 10 NC, 11 VDD1, 12 BS1, 13 BS2, 14 NC, 15 CS, 16 RES, 17 D/C, 18 R/W, 19 E/RD, 20 D0, 21 D1, 22 D2, 23 D3, 24 D4, 25 D5, 26 D6, 27 D7, 28 IREF, 29 VCDMH, 30 VCC, 31 NC
2 alternate drawings of the same symbol

## 液晶 RT1602C
designator U?
单位: 块; 封装: 直插; 名称: 液晶
footprint RT1602C
footprint 液晶  RT1602C
pins: 1 VSS, 2 VDD, 3 Vo, 4 RS, 5 R/W, 6 E, 7 D0, 8 D1, 9 D2, 10 D3, 11 D4, 12 D5, 13 D6, 14 D7, 15 LED+, 16 LED-

## 液晶 TFT_LCD 1.8寸 160*128
designator U?, comment 1.8寸
名称: TFT液晶1.8寸; 单位: 个; 封装: 贴片
footprint 液晶 TFT 1.8寸 160*128 (Footprint not found)
pins: 1 GND, 2 LED-K, 3 LED-A, 4 GND, 5 RST, 6 D/C, 7 DIN, 8 CLK, 9 VCC, 10 VCC, 11 CS, 12 GND, 13 NC, 14 NC, 15 NC, 16 NC, 17 GND, 18 GND

## 液晶 TFT_LCD 1.8寸 模块
designator U?, comment 1.8寸
名称: TFT液晶1.8寸; 单位: 个; 封装: 贴片
footprint 液晶 TFT 1.8寸 模块
pins: 1 VCC, 2 RST (in), 3 DC (in), 4 DIN (in), 5 CLK (in), 6 CS (in), 7 NC, 8 NC, 9 NC, 10 GND

## 液晶 TFT_LCD 2.2寸 220*176
designator U?, comment 2.2寸
名称: TFT液晶2.2寸; 单位: 个; 封装: 贴片
footprint 液晶 2.2_0.7/36Pin_LSGG176220
pins: 1 DB15, 2 DB14, 3 DB13, 4 DB12, 5 DB11, 6 DB10, 7 DB9, 8 DB8, 9 GND, 10 DB7, 11 DB6, 12 DB5, 13 DB4, 14 DB3, 15 DB2, 16 DB1, 17 DB0, 18 VCC, 19 VCC, 20 RD, 21 WR, 22 RS, 23 CS, 24 RESET, 25 NC, 26 GND, 27 LEDA, 28 LEDK1, 29 LEDK2, 30 LEDK3, 31 Y+, 32 Y-, 33 X+, 34 X-, 35 NC, 36 NC

## 液晶 TFT_LCD 2.2寸 320*240
designator U?, comment 2.2寸
名称: TFT液晶2.2寸; 单位: 个; 封装: 贴片
footprint 液晶 TFT 2.2寸 320*240
pins: 1 NC, 2 NC, 3 NC, 4 NC, 5 GND, 6 GND, 7 IOVCC, 8 VCI, 9 CS, 10 RS, 11 WR, 12 RD, 13 NC, 14 NC, 15 NC, 16 NC, 17 NC, 18 NC, 19 NC, 20 NC, 21 DB0, 22 DB1, 23 DB2, 24 DB3, 25 DB4, 26 DB5, 27 DB6, 28 DB7, 29 RESET, 30 LED+, 31 LED1-, 32 LED2-, 33 LED3-, 34 NC, 35 NC

## 液晶 TFT_LCD 2.4寸 320*240
designator U?, comment TFT_LCD 2.4
单位: 块; 封装: 直插; 名称: 液晶屏
footprint 液晶 TFT_LCD 2.4
pins: 1 GND, 2 DB0, 3 VCC3.3, 4 DB1, 5 NC, 6 DB2, 7 RS, 8 DB3, 9 WR, 10 DB4, 11 RD, 12 DB5, 13 DB8, 14 DB6, 15 DB9, 16 DB7, 17 DB10, 18 T_CLK, 19 DB11, 20 T_CS, 21 DB12, 22 T_DIN, 23 DB13, 24 NC, 25 DB14, 26 T_DO, 27 DB15, 28 T_IRQ, 29 CS, 30 SD_DO, 31 F_CS, 32 SD_CLK, 33 RESET, 34 SD_DIN, 35 NC, 36 SD_CS, 37 LED-A, 38 NC, 39 NC, 40 NC
text: 液晶  TFT_LCD 2.4

## 液晶 TFT_LCD 2.8寸 320*240
designator LCD?
单位: 块; 封装: 直插; 名称: 液晶屏
footprint 液晶 TFT2.4/2.8 320*240
pins: 1 LCD_CS, 2 RS, 3 WR/CLK, 4 RD, 5 RST, 6 DB1, 7 DB2, 8 DB3, 9 DB4, 10 DB5, 11 DB6, 12 DB7, 13 DB8, 14 DB10, 15 DB11, 16 DB12, 17 DB13, 18 DB14, 19 DB15, 20 DB16, 21 DB17, 22 GND, 23 BL, 24 VDD3.3, 25 VDD3.3, 26 GND, 27 GND, 28 BL_VDD, 29 MISO, 30 MOSI, 31 T_PEN, 32 MO, 33 T_CS, 34 CLK

## 液晶 TFT_LCD 3.5寸 320*480
designator LCD?
单位: 块; 封装: 直插; 名称: 液晶屏
footprint 液晶 TFT3.5 320*480 (Footprint not found)
pins: 1 NC, 2 NC, 3 NC, 4 NC, 5 GND, 6 LEDON, 7 LEDPWM, 8 IM0/ID, 9 IM1, 10 IM2, 11 RESX, 12 VSYNC, 13 HSYNC, 14 PCLK, 15 DE, 16 DB17, 17 DB16, 18 DB15, 19 DB14, 20 DB13, 21 DB12, 22 DB11, 23 DB10, 24 DB9, 25 DB8, 26 DB7, 27 DB6, 28 DB5, 29 DB4, 30 DB3, 31 DB2, 32 DB1, 33 DB0, 34 DOUT, 35 DIN/SDA, 36 RDX, 37 WRX/SCL, 38 D/CX, 39 CSX, 40 TE, 41 IOVCC, 42 VCI, 43 GND, 44 LEDA, 45 LEDK1, 46 LEDK2, 47 LEDK3, 48 LEDK4, 49 LEDK5, 50 LEDK6

## 液晶 段码 (称重)
designator U?, comment 段码液晶
footprint 段码液晶 称重 (Footprint not found)
pins: 1 COM1, 2 COM2, 3 COM3, 4 C0M4, 5 S1, 6 S2, 7 S3, 8 S4, 9 S5, 10 S6, 11 S7, 12 S8, 13 S9, 14 S10, 15 S11, 16 S12, 17 S13, 18 S14, 19 S15, 20 S16, 21 S17, 22 A, 23 K, 24 A, 25 K

## 液晶 段码（温湿度）
designator U?  (value not drawn)
单位: 个; 名称: 星望段码液晶; 封装: 无
footprint 液晶 段码（温湿度） (Footprint not found)
pins: 1 COM1, 2 COM2, 3 COM3, 4 COM4, 5 S1, 6 S2, 7 S3, 8 S4, 9 S5, 10 S6, 11 S7, 12 S8, 13 S9, 14 S10, 15 S11, 16 S12

## 滤波器 电源 AC220V
designator U?
单位: 个; 封装: 直插; 名称: AC220 电源滤波器
footprint 滤波器 电源 220V
pins: 1 L, 2 G, 3 N, 4 N', 5 L'

## 焊盘
designator P?, comment TEST  (value not drawn)
单位: 个; 名称: 焊盘; 封装: 直插
footprint 焊盘 (Footprint not found)
pins: 1

## 电位器 3296
designator R?, comment 0
名称: 电位器; 封装: 直插 3296; 单位: 个
footprint 电位器 (Potentiometer; 3 Leads)
pins: 1 BOT, 2 TOP, 3 TAP
1 alternate drawing of the same symbol

## 电容 直插 电解  330u/25V
designator C?, comment 330u/16V
名称: 电解电容; 封装: 直插; 单位: 个
footprint 电容 直插 470UF/25V
pins: 1, 2
2 alternate drawings of the same symbol

## 电容 直插 电解  470u/35v
designator C?, comment 470u/35v
名称: 电解电容; 封装: 直插; 单位: 个
footprint 电容 直插 470UF/25V
pins: 1, 2

## 电容 贴片 0603
designator C?, comment 0
名称: 贴片电容; 封装: 0603; 单位: 个
footprint 0603
pins: 1, 2
2 alternate drawings of the same symbol

## 电容 贴片 0805
designator C?, comment 0
名称: 贴片电容; 封装: 0805; 单位: 个
footprint 0805
pins: 1, 2
2 alternate drawings of the same symbol

## 电容 贴片 钽电解 10u/10V
designator C?, comment 10u/10V
名称: 贴片钽电容; 封装: 贴片; 单位: 个
footprint 电容 钽电解 1206
pins: 1, 2
2 alternate drawings of the same symbol

## 电容 贴片 钽电解 10u/16V
designator C?, comment 10u/16V
名称: 贴片钽电解电容; 封装: 3528; 单位: 个
footprint 电容 钽电解 3528
pins: 1, 2
2 alternate drawings of the same symbol

## 电容 贴片 铝电解100u/25V
designator C?, comment 100u/25V
名称: 贴片铝电解电容; 封装: 贴片; 单位: 个
footprint 电容 铝电解 100u/25V
pins: 1, 2
2 alternate drawings of the same symbol

## 电容 贴片 铝电解 10u/25V
designator C?, comment 10u/25V
名称: 贴片铝电解电容; 封装: 贴片; 单位: 个
footprint 电容 铝电解 10u/25V
pins: 1, 2
2 alternate drawings of the same symbol

## 电容 贴片 铝电解 470u/25V
designator C?, comment 470u/25V
名称: 贴片铝电解电容; 封装: 贴片; 单位: 个
footprint 电容 铝电解 470U/35V
pins: 1, 2
2 alternate drawings of the same symbol

## 电感
designator L?, comment 330uH/1A
名称: 电感; 封装: 直插; 单位: 个
footprint 电感 直插
pins: 1, 2

## 电感 共模
designator L?, comment TCB4F-617DB
封装: 贴片; 单位: 个; 名称: 电感
footprint 电感 TCB4F-617DB (Footprint not found)
pins: 1, 2, 3, 4, 6

## 电感 共轭
designator L?, comment 电感
封装: DIP; 单位: 个; 名称: 电感
footprint 电感 DIP4 (Footprint not found)
pins: 1, 2, 3, 4

## 电感 贴片 0805
designator L?, comment 10uH
名称: 贴片电感; 封装: 0805; 单位: 个
footprint 0805
pins: 1, 2

## 电机 步进
designator M?
单位: 台; 封装: 固定安装; 名称: 电机_步进
footprint 电机_B
pins: 1, 2, 3, 4, 5, 6

## 电机 直流 RF-500TB
designator M?
单位: 台; 封装: 固定安装; 名称: 电机_直流
footprint 电机_D
pins: 1 +, 2 -
text: M

## 电机 直流 震动
designator M?, comment 电机 直流 震动4*10mm
单位: 个; 封装: 直插; 名称: 震动电机
footprint 电机_4*10mm (Footprint not found)
pins: 1 +, 2 -
text: M

## 电池
designator BT?, comment 18650
单位: 个; 名称: 电池; 封装: 直插
footprint VH2.54_2
pins: 1 +, 2 -
2 alternate drawings of the same symbol

## 电池座 大
designator BT1
footprint BAT-3V
pins: 1 +, 2 -
2 alternate drawings of the same symbol

## 电池座 小
designator BT?
Published: 24-Mar-1999; LatestRevisionDate: 17-Jul-2002; LatestRevisionNote: Re-released for DXP Platform.; PackageReference: BAT-2; Publisher: Altium Limited
footprint 电池-3.3V 平放
pins: 1 +, 2 -

## 电流互感器 LCTA2ECE-80A/40mA
designator T?, comment LCTA2ECE-80A/40mA
封装: 直插; 单位: 个; 名称: 电流互感器
footprint 电流互感器 LCTA2ECE-80A/40mA
pins: 1, 2, 3, 4

## 电阻 直插微电阻
designator R?, comment 0
名称: 微电阻; 封装: 直插; 单位: 个
footprint AXIAL-0.4 (Resistor; 2 Leads)
pins: 1, 2

## 电阻 贴片 0603
designator R?, comment 0
名称: 贴片电阻; 封装: 0603; 单位: 个
footprint 0603
pins: 1, 2

## 电阻 贴片 0805
designator R?, comment 0
名称: 贴片电阻; 封装: 0805; 单位: 个
footprint 0805
pins: 1, 2

## 硅桥 KBL608
designator B?, comment KBL608
封装: 直插; 单位: 个; 名称: 硅桥
footprint 硅桥 KBL608
pins: 1, 2, 3, 4
text: +; AC; -

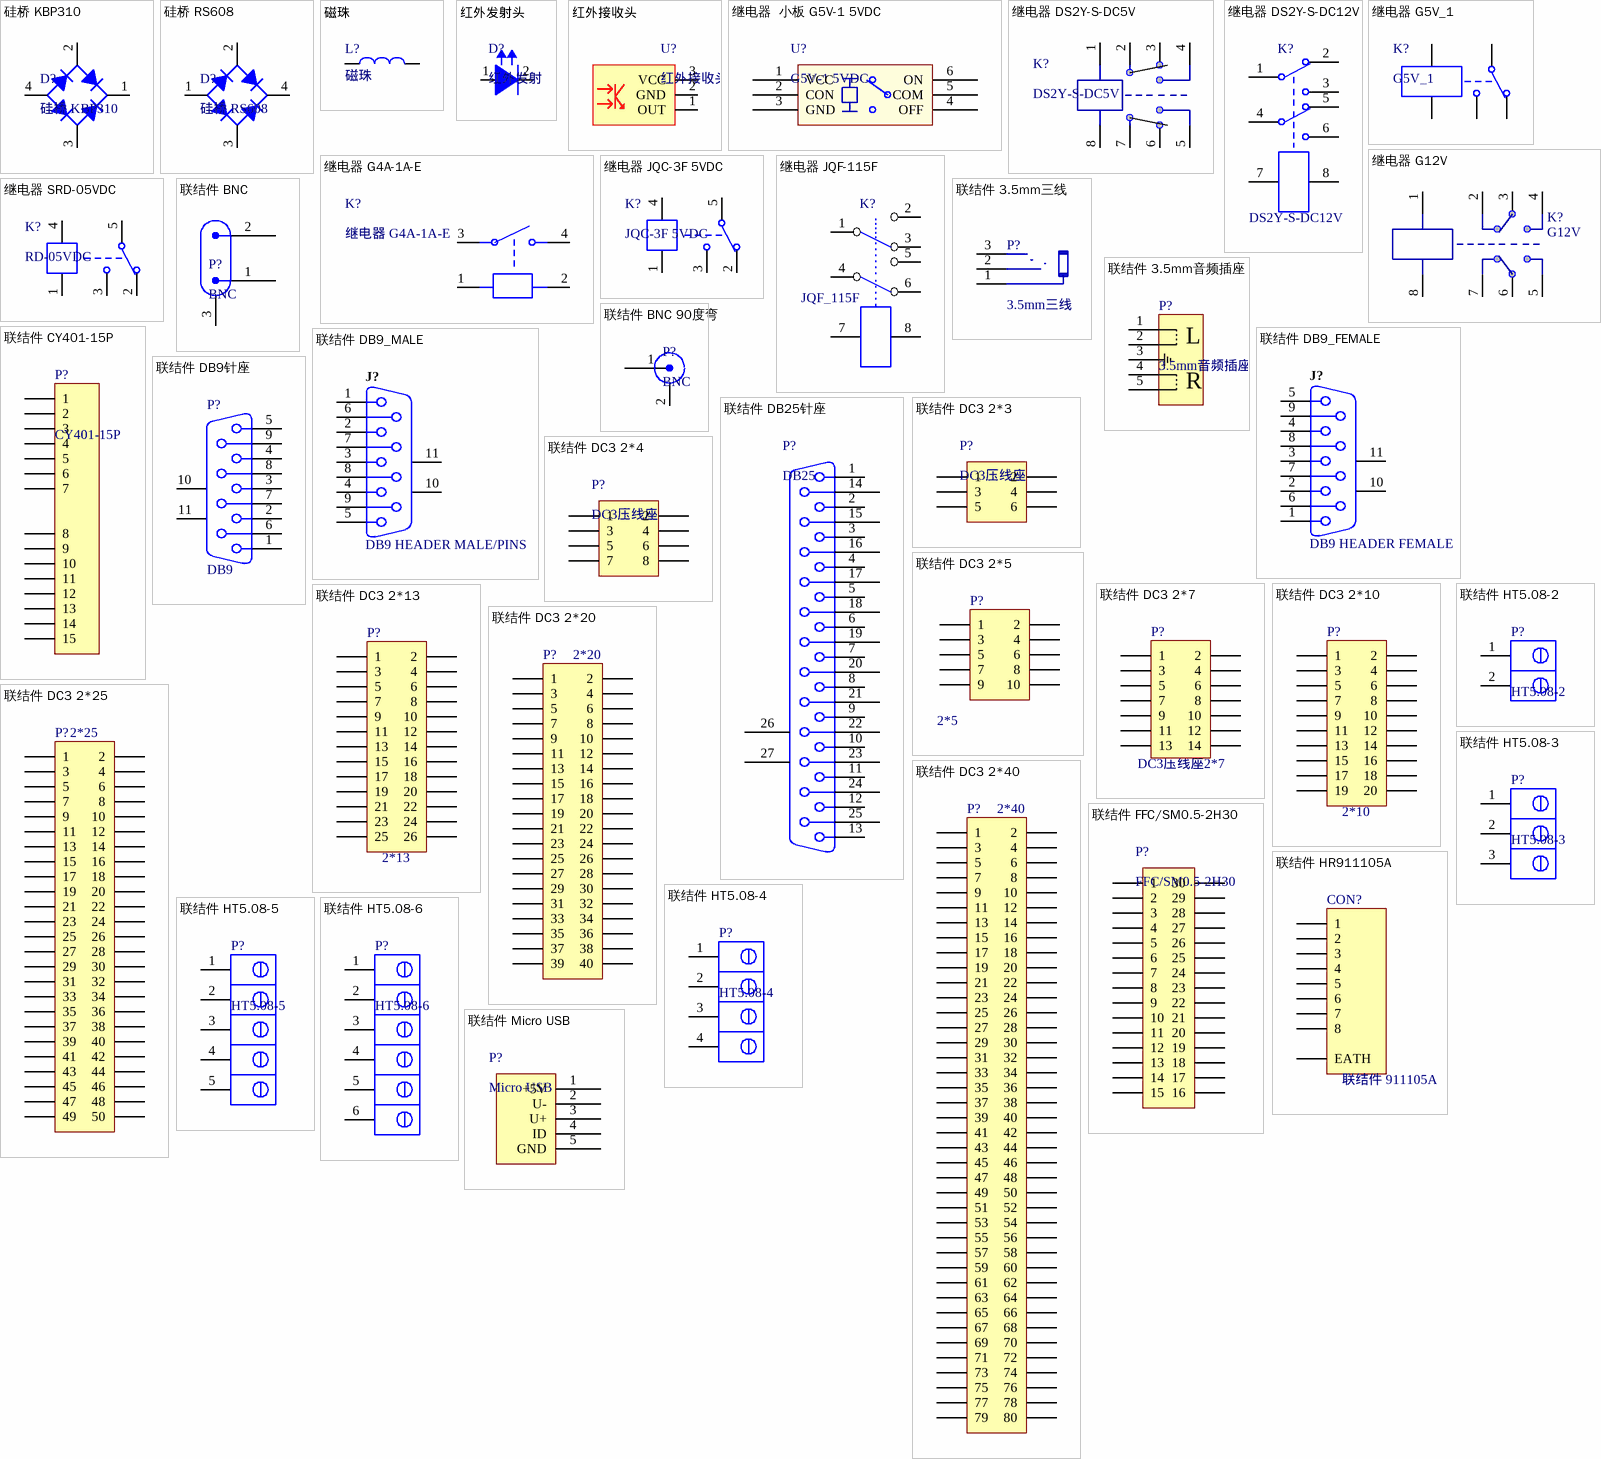
[diagram p8: symbols 硅桥 KBP310 to 联结件 Micro USB]

## 硅桥 KBP310
designator D?
单位: 个; 封装: 直插; 名称: 硅桥
footprint 硅桥 KBL310
pins: 1 -, 2, 3, 4 +

## 硅桥 RS608
designator D?
单位: 个; 封装: 直插; 名称: 硅桥
footprint 硅桥 KBL608
pins: 1 -, 2, 3, 4 +

## 磁珠
designator L?
封装: 0805; 单位: 个; 名称: 磁珠
footprint 0805
pins: 1, 2

## 红外发射头
designator D?, comment 红外发射
单位: 个; 封装: 直插; 名称: 红外发射
footprint LED5_单色
pins: 1 A, 2 K

## 红外接收头
designator U?
单位: 个; 封装: 直插; 名称: 红外接收头
footprint 红外接收头
pins: 1 OUT, 2 GND, 3 VCC

## 继电器  小板 G5V-1 5VDC
designator U?, comment G5V-1 5VDC
footprint 继电器 小板 G5V-1 5VDC
pins: 1 VCC, 2 CON, 3 GND, 4 OFF, 5 COM, 6 ON

## 继电器 DS2Y-S-DC5V
designator K?, comment DS2Y-S-DC5V
单位: 个; 名称: 继电器
footprint 继电器 DS2Y-S-DC5V
pins: 1, 2, 3, 4, 5, 6, 7, 8

## 继电器 DS2Y-S-DC12V
designator K?, comment DS2Y-S-DC12V
名称: 继电器; 单位: 个; 封装: 直插
footprint 继电器 DS2Y-S-DC12V
footprint 继电器 DS2Y-S-DC5V
pins: 1, 2, 3, 4, 5, 6, 7, 8

## 继电器 G4A-1A-E
designator K?
单位: 个; 封装: 继电器 G4A-1A-E; 名称: 继电器
footprint 继电器 G4A-1A-E
pins: 1, 2, 3, 4

## 继电器 G5V_1
designator K?, comment G5V_1
单位: 个; 封装: G5V-1; 名称: 继电器
footprint 继电器 G5V-1
pins: 1, 2, 3, 4, 5

## 继电器 G12V
designator K?, comment G12V
单位: 个; 名称: 继电器
footprint 继电器 G2R-2
pins: 1, 2, 3, 4, 5, 6, 7, 8

## 继电器 JQC-3F 5VDC
designator K?, comment JQC-3F 5VDC
单位: 个; 名称: 继电器; 封装: JQC-3F 5VDC
footprint 继电器 JQC-3F 5VDC (Footprint not found)
pins: 1, 2, 3, 4, 5

## 继电器 JQF-115F
designator K?, comment JQF_115F
footprint 继电器 JQF_115F
pins: 1, 2, 3, 4, 5, 6, 7, 8

## 继电器 SRD-05VDC
designator K?, comment RD-05VDC
单位: 个; 名称: 继电器; 封装: RD-05VDC
footprint 继电器 RD-05VDC (Footprint not found)
pins: 1, 2, 3, 4, 5

## 联结件 3.5mm三线
designator P?, comment 3.5mm三线
名称: 联结件; 封装: 3.5mm音频插座; 单位: 套
footprint 音频插座 3.5mm三线 (Footprint not found)
pins: 1, 2, 3

## 联结件 3.5mm音频插座
designator P?, comment 3.5mm音频插座
名称: 联结件; 单位: 套; 封装: 3.5mm音频插座
footprint 音频插座 3.5mm
pins: 1, 2, 3, 4, 5
text: L; R

## 联结件 BNC
designator P?, comment BNC
封装: 直插; 名称: 联结件; 单位: 个
footprint BNC_2
pins: 1 X, 2 Y, 3 Z

## 联结件 BNC 90度弯
designator P?, comment BNC
封装: 直插; 名称: 联结件; 单位: 个
footprint BNC_90度弯
pins: 1 X, 2 Y

## 联结件 CY401-15P
designator P?, comment CY401-15P
名称: 联结件; 单位: 个; 封装: CY401-15P
footprint CY401-15P
pins: 1, 2, 3, 4, 5, 6, 7, 8, 9, 10, 11, 12, 13, 14, 15

## 联结件 DB9_FEMALE
designator J?, comment DB9 HEADER FEMALE
单位: 个; 名称: DB9母头; 封装: DB9_FEMALE
footprint DB9_FEMALE
pins: 1, 2, 3, 4, 5, 6, 7, 8, 9, 10, 11

## 联结件 DB9_MALE
designator J?, comment DB9 HEADER MALE/PINS
单位: 个; 名称: DB9公头; 封装: DB9_MALE
footprint DB9_MALE
pins: 1, 2, 3, 4, 5, 6, 7, 8, 9, 10, 11

## 联结件 DB9针座
designator P?, comment DB9
名称: 联结件; Revision: 17-Jul-2002: Re-released for DXP Platform.; 封装: DB9
footprint RS232
pins: 1, 2, 3, 4, 5, 6, 7, 8, 9, 10 MH1, 11 MH2

## 联结件 DB25针座
designator P?, comment DB25
单位: 个; 封装: DB9; 名称: 联结件
footprint DB25
pins: 1, 2, 3, 4, 5, 6, 7, 8, 9, 10, 11, 12, 13, 14, 15, 16, 17, 18, 19, 20, 21, 22, 23, 24, 25, 26, 27

## 联结件 DC3 2*3
designator P?, comment DC3压线座
单位: 个; 封装: 2*3; 名称: 联结件
footprint DC3压线座 2.54 2*3
pins: 1, 2, 3, 4, 5, 6

## 联结件 DC3 2*4
designator P?, comment DC3压线座
单位: 个; 封装: 2*4; 名称: 联结件
footprint DC3压线座 2.54 2*4
pins: 1, 2, 3, 4, 5, 6, 7, 8

## 联结件 DC3 2*5
designator P?, comment 封装: 2*5  (hidden comment: DC3压线座)
名称: 联结件; 单位: 个
footprint DC3压线座 2.54 2*5
pins: 1, 2, 3, 4, 5, 6, 7, 8, 9, 10

## 联结件 DC3 2*7
designator P?, comment 封装: DC3压线座2*7  (hidden comment: DC3压线座)
名称: 联结件; 单位: 个
footprint DC3压线座 2.54 2*7
pins: 1, 2, 3, 4, 5, 6, 7, 8, 9, 10, 11, 12, 13, 14

## 联结件 DC3 2*10
designator P?, comment 封装: 2*10  (hidden comment: DC3压线座)
名称: 联结件; 单位: 个
footprint DC3压线座 2.54 2*10
pins: 1, 2, 3, 4, 5, 6, 7, 8, 9, 10, 11, 12, 13, 14, 15, 16, 17, 18, 19, 20

## 联结件 DC3 2*13
designator P?, comment 封装: 2*13  (hidden comment: DC3压线座)
名称: 联结件; 单位: 个
footprint DC3压线座 2.54 2*10
pins: 1, 2, 3, 4, 5, 6, 7, 8, 9, 10, 11, 12, 13, 14, 15, 16, 17, 18, 19, 20, 21, 22, 23, 24, 25, 26

## 联结件 DC3 2*20
designator P?, comment 封装: 2*20  (hidden comment: DC3压线座)
名称: 联结件; 单位: 个
footprint DC3压线座 2.54 2*20
pins: 1, 2, 3, 4, 5, 6, 7, 8, 9, 10, 11, 12, 13, 14, 15, 16, 17, 18, 19, 20, 21, 22, 23, 24, 25, 26, 27, 28, 29, 30, 31, 32, 33, 34, 35, 36, 37, 38, 39, 40